# Altium schematic symbol library dungvh03-CERN_AnalogInterface.SchLib: 1053 symbols (part 6 of 12)
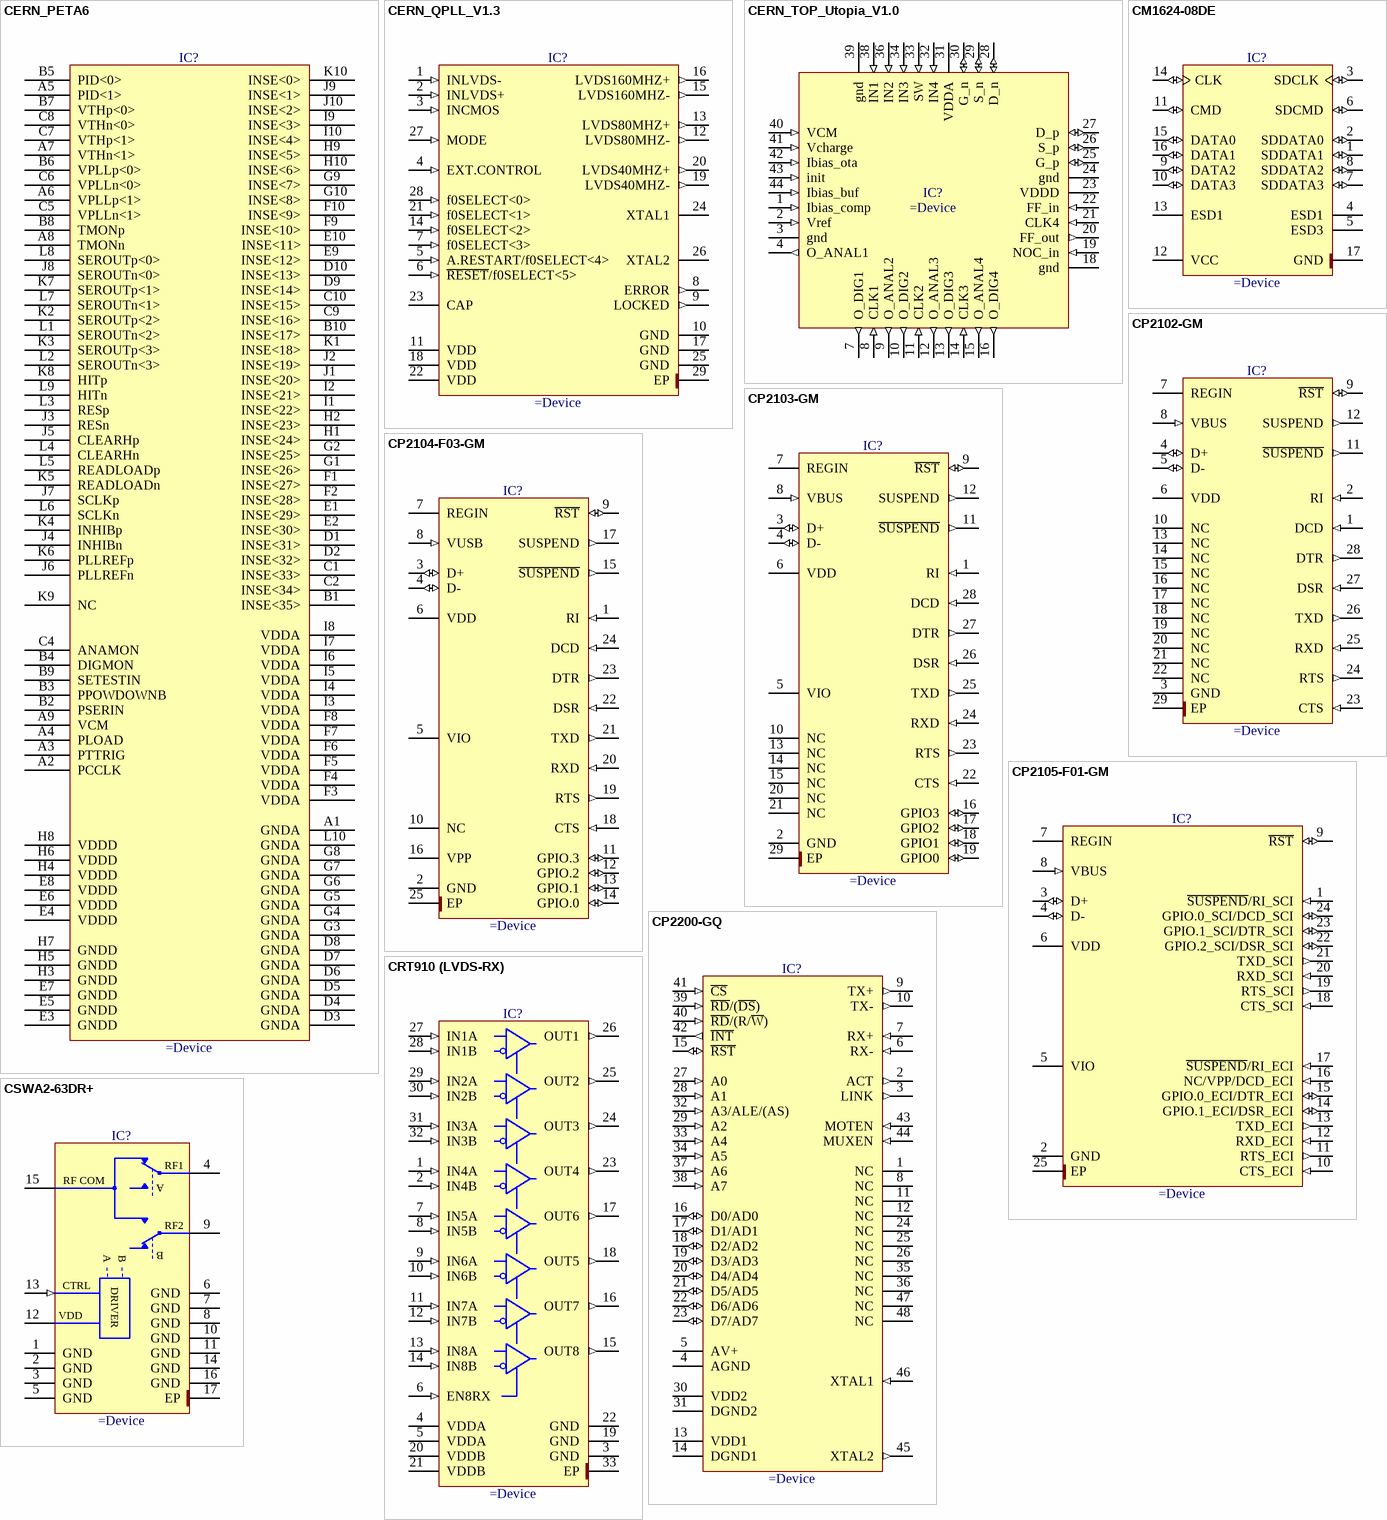
[diagram p72: symbols CERN_PETA6 to CSWA2-63DR+]

## CSWA2-63DR+
designator IC?
Absorptive SPDT RF Switch with Internal Driver, 50 Ohms, 500 to 6000MHz
pins: 1 GND (power), 2 GND (power), 3 GND (power), 4 RF1, 5 GND (power), 6 GND (power), 7 GND (power), 8 GND (power), 9 RF2, 10 GND (power), 11 GND (power), 12 VDD (power), 13 CTRL (in), 14 GND (power), 15 RF COM, 16 GND (power), 17 EP (power)
text: A; B; DRIVER

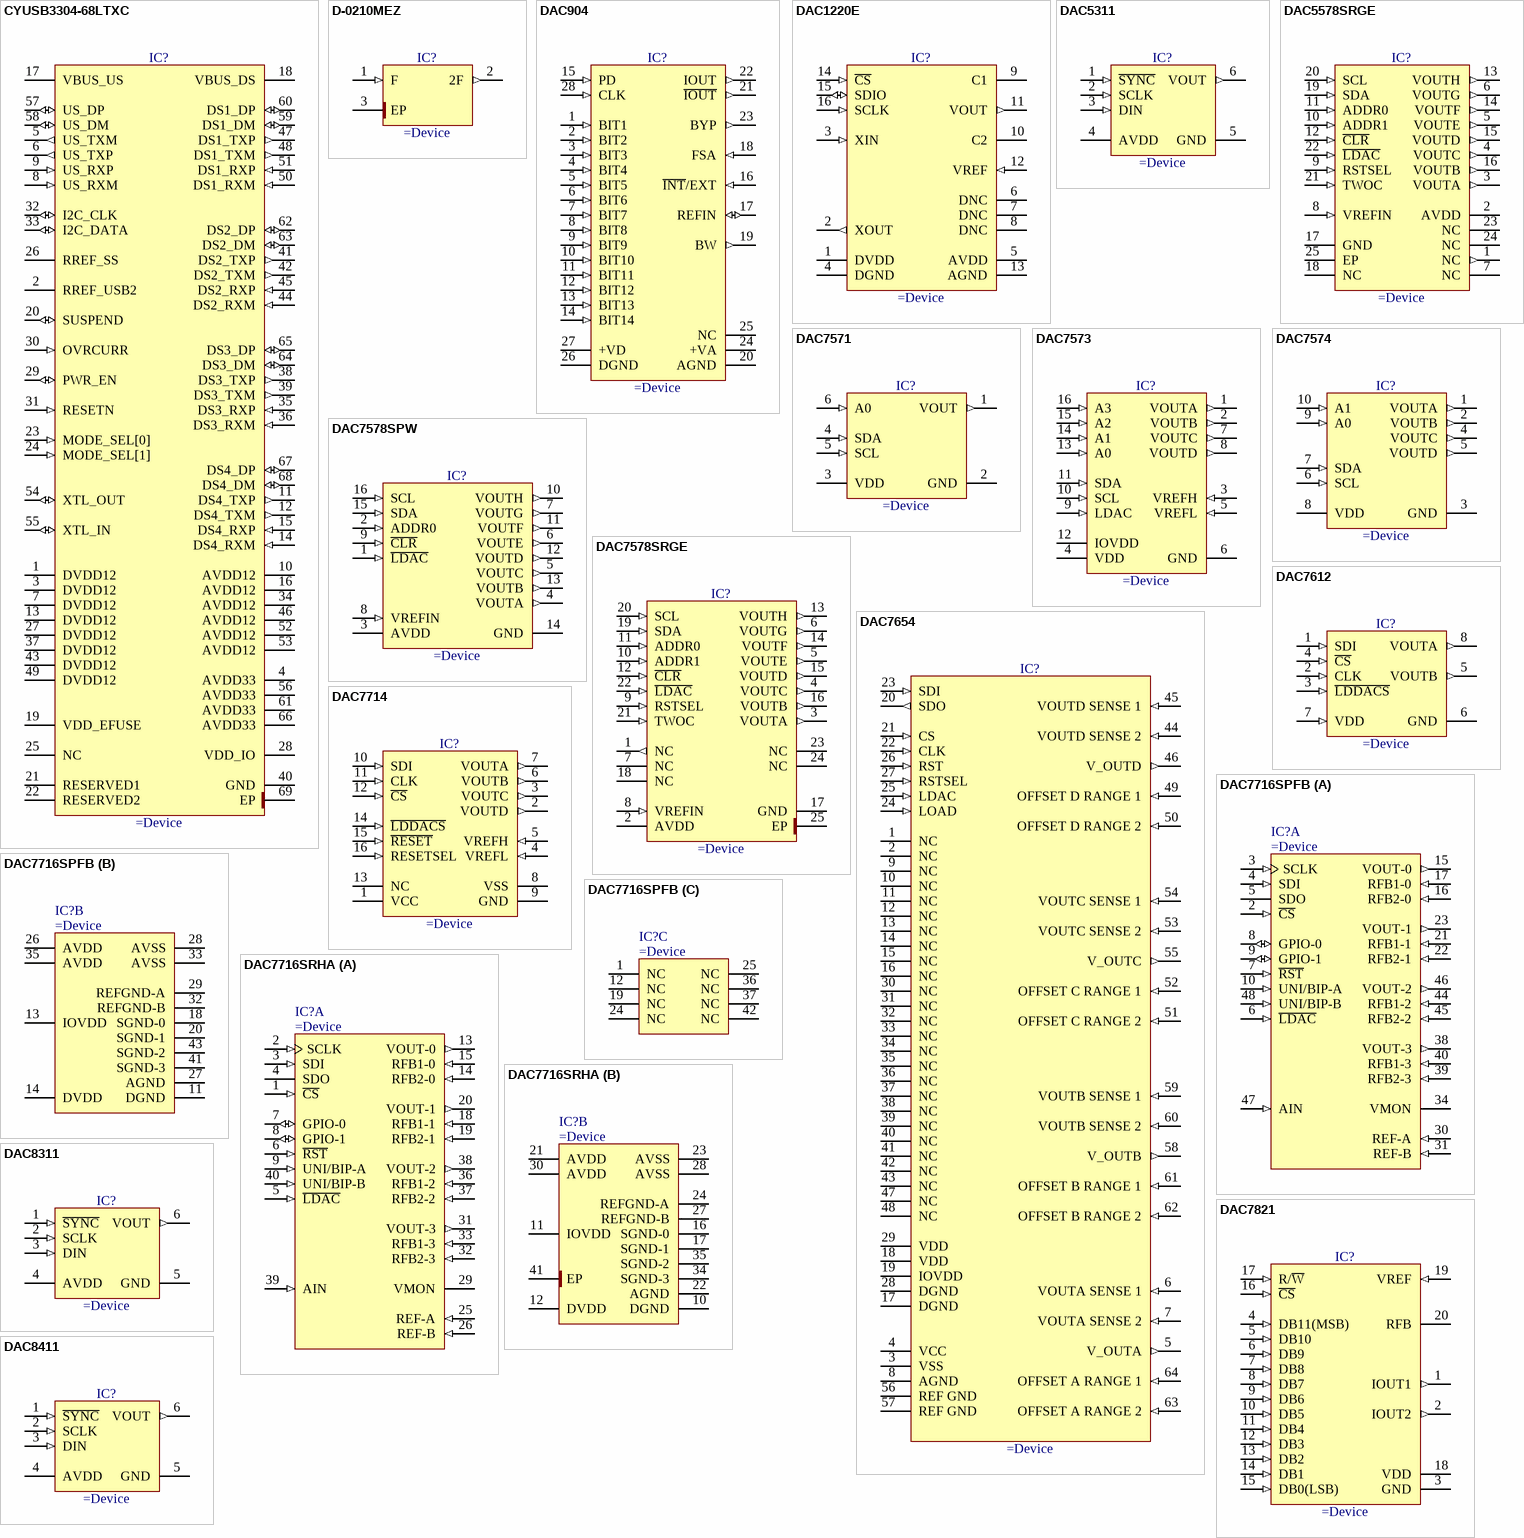
[diagram p28: symbols CYUSB3304-68LTXC to DAC8411]

## CYUSB3304-68LTXC
designator IC?
4 Ports USB 3.0 Hub Controller
pins: 1 DVDD12 (power), 2 RREF_USB2, 3 DVDD12 (power), 4 AVDD33 (power), 5 US_TXM (out), 6 US_TXP (out), 7 DVDD12 (power), 8 US_RXM (in), 9 US_RXP (in), 10 AVDD12 (power), 11 DS4_TXP (out), 12 DS4_TXM (out), 13 DVDD12 (power), 14 DS4_RXM (in), 15 DS4_RXP (in), 16 AVDD12 (power), 17 VBUS_US (power), 18 VBUS_DS (power), 19 VDD_EFUSE (power), 20 SUSPEND (io), 21 RESERVED1, 22 RESERVED2, 23 MODE_SEL[0] (in), 24 MODE_SEL[1] (in), 25 NC, 26 RREF_SS, 27 DVDD12 (power), 28 VDD_IO (power), 29 PWR_EN (io), 30 OVRCURR (in), 31 RESETN (in), 32 I2C_CLK (io), 33 I2C_DATA (io), 34 AVDD12 (power), 35 DS3_RXP (in), 36 DS3_RXM (in), 37 DVDD12 (power), 38 DS3_TXP (out), 39 DS3_TXM (out), 40 GND (power), 41 DS2_TXP (out), 42 DS2_TXM (out), 43 DVDD12 (power), 44 DS2_RXM (in), 45 DS2_RXP (in), 46 AVDD12 (power), 47 DS1_TXP (out), 48 DS1_TXM (out), 49 DVDD12 (power), 50 DS1_RXM (in), 51 DS1_RXP (in), 52 AVDD12 (power), 53 AVDD12 (power), 54 XTL_OUT (io), 55 XTL_IN (io), 56 AVDD33 (power), 57 US_DP (io), 58 US_DM (io), 59 DS1_DM (io), 60 DS1_DP (io), 61 AVDD33 (power), 62 DS2_DP (io), 63 DS2_DM (io), 64 DS3_DM (io), 65 DS3_DP (io), 66 AVDD33 (power), 67 DS4_DP (io), 68 DS4_DM (io), 69 EP (power)

## D-0210MEZ
designator IC?
Frequency Doubler - Input 2.0 to 10.0 GHz, Output 4.0 to 20.0 GHz
pins: 1 F (in), 2 2F (out), 3 EP (power)

## DAC904
designator IC?
14-Bit, 165MSPS SpeedPlus(TM) DAC Scalable Current Outputs between 2mA to 20mA
pins: 1 BIT1 (in), 2 BIT2 (in), 3 BIT3 (in), 4 BIT4 (in), 5 BIT5 (in), 6 BIT6 (in), 7 BIT7 (in), 8 BIT8 (in), 9 BIT9 (in), 10 BIT10 (in), 11 BIT11 (in), 12 BIT12 (in), 13 BIT13 (in), 14 BIT14 (in), 15 PD (in), 16 ~{INT}/EXT (in), 17 REFIN (io), 18 FSA (in), 19 BW (out), 20 AGND (power), 21 ~{IOUT} (out), 22 IOUT (out), 23 BYP (out), 24 +VA (power), 25 NC, 26 DGND (power), 27 +VD (power), 28 CLK (in)

## DAC1220E
designator IC?
20-Bit, Low-Power Digital-to-Analog Converter
pins: 1 DVDD (power), 2 XOUT (out), 3 XIN (in), 4 DGND (power), 5 AVDD (power), 6 DNC, 7 DNC, 8 DNC, 9 C1, 10 C2, 11 VOUT (out), 12 VREF (in), 13 AGND (power), 14 ~{CS} (in), 15 SDIO (io), 16 SCLK (in)

## DAC5311
designator IC?
1.8V to 5.5V, 80uA, 8-Bit, Low-Power, Single-Channel, DAC
pins: 1 ~{SYNC} (in), 2 SCLK (in), 3 DIN (in), 4 AVDD (power), 5 GND (power), 6 VOUT (out)

## DAC5578SRGE
designator IC?
8-Bit, Octal-Channel, Ultra-Low Glitch, Voltage Output, Two-Wire Interface Digital-to-Analog Converter
pins: 1 NC (out), 2 AVDD (power), 3 VOUTA (out), 4 VOUTC (out), 5 VOUTE (out), 6 VOUTG (out), 7 NC, 8 VREFIN (in), 9 RSTSEL (in), 10 ADDR1 (in), 11 ADDR0 (in), 12 ~{CLR} (in), 13 VOUTH (out), 14 VOUTF (out), 15 VOUTD (out), 16 VOUTB (out), 17 GND (power), 18 NC, 19 SDA (in), 20 SCL (in), 21 TWOC (in), 22 ~{LDAC} (in), 23 NC, 24 NC, 25 EP (power)

## DAC7571
designator IC?
+2.7 V to +5.5 V, I2C Interface (Receive Only), Voltage Output, 12-Bit Digital-To-Analog Converter
pins: 1 VOUT (out), 2 GND (power), 3 VDD (power), 4 SDA (in), 5 SCL (in), 6 A0 (in)

## DAC7573
designator IC?
Quad, 12-Bit, Low-Power, Voltage Output, I2C Interface Digital-To-Analog Converter
pins: 1 VOUTA (out), 2 VOUTB (out), 3 VREFH (in), 4 VDD, 5 VREFL (in), 6 GND (power), 7 VOUTC (out), 8 VOUTD (out), 9 LDAC (in), 10 SCL (in), 11 SDA (in), 12 IOVDD (power), 13 A0 (in), 14 A1 (in), 15 A2 (in), 16 A3 (in)

## DAC7574
designator IC?
Quad, 12-Bit, Low-Power, Voltage Output, I2C Interface Digital-To-Analog Converter
pins: 1 VOUTA (out), 2 VOUTB (out), 3 GND (power), 4 VOUTC (out), 5 VOUTD (out), 6 SCL (in), 7 SDA (in), 8 VDD, 9 A0 (in), 10 A1 (in)

## DAC7578SPW
designator IC?
12-Bit, Octal-Channel, Ultra-Low Glitch, Voltage Output, Two-Wire Interface Digital-To-Analog Converters
pins: 1 ~{LDAC} (in), 2 ADDR0 (in), 3 AVDD (power), 4 VOUTA (out), 5 VOUTC (out), 6 VOUTE (out), 7 VOUTG (out), 8 VREFIN (in), 9 ~{CLR} (in), 10 VOUTH (out), 11 VOUTF (out), 12 VOUTD (out), 13 VOUTB (out), 14 GND (power), 15 SDA (in), 16 SCL (in)

## DAC7578SRGE
designator IC?
8-Bit, Octal-Channel, Ultra-Low Glitch, Voltage Output, Two-Wire Interface Digital-to-Analog Converter
pins: 1 NC (out), 2 AVDD (power), 3 VOUTA (out), 4 VOUTC (out), 5 VOUTE (out), 6 VOUTG (out), 7 NC, 8 VREFIN (in), 9 RSTSEL (in), 10 ADDR1 (in), 11 ADDR0 (in), 12 ~{CLR} (in), 13 VOUTH (out), 14 VOUTF (out), 15 VOUTD (out), 16 VOUTB (out), 17 GND (power), 18 NC, 19 SDA (in), 20 SCL (in), 21 TWOC (in), 22 ~{LDAC} (in), 23 NC, 24 NC, 25 EP (power)

## DAC7612
designator IC?
Dual, 12-Bit Serial Input Digital-To-Analog Converter
pins: 1 SDI (in), 2 CLK (in), 3 ~{LDDACS} (in), 4 ~{CS} (in), 5 VOUTB (out), 6 GND (power), 7 VDD (in), 8 VOUTA (out)

## DAC7654
designator IC?
16-Bit Quad Voltage Output DAC
pins: 1 NC, 2 NC, 3 VSS (power), 4 VCC (power), 5 V_OUTA (out), 6 VOUTA SENSE 1 (in), 7 VOUTA SENSE 2 (in), 8 AGND (power), 9 NC, 10 NC, 11 NC, 12 NC, 13 NC, 14 NC, 15 NC, 16 NC, 17 DGND (power), 18 VDD (power), 19 IOVDD (power), 20 SDO (out), 21 CS (in), 22 CLK (in), 23 SDI (in), 24 LOAD (in), 25 LDAC (in), 26 RST (in), 27 RSTSEL (in), 28 DGND (power), 29 VDD (power), 30 NC, 31 NC, 32 NC, 33 NC, 34 NC, 35 NC, 36 NC, 37 NC, 38 NC, 39 NC, 40 NC, 41 NC, 42 NC, 43 NC, 44 VOUTD SENSE 2 (in), 45 VOUTD SENSE 1 (in), 46 V_OUTD (out), 47 NC, 48 NC, 49 OFFSET D RANGE 1 (in), 50 OFFSET D RANGE 2 (in), 51 OFFSET C RANGE 2 (in), 52 OFFSET C RANGE 1 (in), 53 VOUTC SENSE 2 (in), 54 VOUTC SENSE 1 (in), 55 V_OUTC (out), 56 REF GND (power), 57 REF GND (power), 58 V_OUTB (out), 59 VOUTB SENSE 1 (in), 60 VOUTB SENSE 2 (in), 61 OFFSET B RANGE 1 (in), 62 OFFSET B RANGE 2 (in), 63 OFFSET A RANGE 2 (in), 64 OFFSET A RANGE 1 (in)

## DAC7714
designator IC?
Quad, Serial Input, 12-Bit, Voltage Output DAC
pins: 1 VCC (power), 2 VOUTD (out), 3 VOUTC (out), 4 VREFL (in), 5 VREFH (in), 6 VOUTB (out), 7 VOUTA (out), 8 VSS (power), 9 GND (power), 10 SDI (in), 11 CLK (in), 12 ~{CS} (in), 13 NC, 14 ~{LDDACS} (in), 15 ~{RESET} (in), 16 RESETSEL (in)

## DAC7716SPFB
designator IC?
Quad, 12-Bit, High-Accuracy, ±16V Output, Serial Input DAC
part A pins: 2 ~{CS} (in) "SPI bus chip select input (active low). Data are not clocked into the SPI shift register unless C\S\ is low. When C\S\ is high, SDO is in a high-impedance state.", 3 SCLK (in) "SPI bus clock", 4 SDI (in) "SPI bus input data", 5 SDO (hiz) "SPI output data", 6 ~{LDAC} (in) "Load DAC latch control input (active low). When L\D\A\C\ is low, the DAC latch is transparent and the contents of the Input Data Register are transferred to it. The DAC output changes to the corresponding level (See Datasheet)", 7 ~{RST} (in) "Reset input (active low). Logic low on this pin resets the input registers and DACs to the values defined by the UNI/BIP pins, and sets the Gain Register and Zero Register to default values.", 8 GPIO-0 (io) "General-purpose digital input/output 0. This pin is a bidirectional, digital input/output, and has an open-drain output. A 10kO pull-up resistor to IOVDD is needed when this pin is used as an output. See the GPIO Pins (See Datasheet)", 9 GPIO-1 (io) "General-purpose digital input/output 1. This pin is a bidirectional, digital input/output, and has an open-drain output. A 10kO pull-up resistor to IOVDD is needed when this pin is used as an output. See the GPIO Pins (See Datasheet)", 10 UNI/BIP-A (in) "Output mode selection of group A (DAC-0 and DAC-1). When UNI/BIP-A is tied to IOVDD, group A is in unipolar output mode; when tied to DGND, group A is in bipolar output mode. The input data written to the DAC are straight (See Datasheet)", 15 VOUT-0 (out) "DAC-0 output", 16 RFB2-0 (in) "DAC-0 RFB2 feedback", 17 RFB1-0 (in) "DAC-0 RFB1 feedback", 21 RFB1-1 (in) "DAC-1 RFB1 feedback", 22 RFB2-1 (in) "DAC-1 RFB2 feedback", 23 VOUT-1 (out) "DAC-1 output", 30 REF-A (in) "Group A (DAC-0, DAC-1) reference input", 31 REF-B (in) "Group B (DAC-2, DAC-3) reference input", 34 VMON (hiz) "Analog monitor output. This pin is either in Hi-Z status, or connected to one of the four DAC outputs or AIN, depending on the content of the Monitor Register.", 38 VOUT-3 (out) "DAC-3 output", 39 RFB2-3 (in) "DAC-3 RFB2 feedback", 40 RFB1-3 (in) "DAC-3 RFB1 feedback", 44 RFB1-2 (in) "DAC-2 RFB1 feedback", 45 RFB2-2 (in) "DAC-2 RFB2 feedback", 46 VOUT-2 (out) "DAC-2 output", 47 AIN (in) "Auxiliary analog input. Connected to the analog monitor mux.", 48 UNI/BIP-B (in) "Output mode selection of group B (DAC-2 and DAC-3). When UNI/BIP-A is tied to IOVDD, group B is in unipolar output mode; when tied to DGND, group B is in bipolar output mode. The input data written to the DAC are straight (See Datasheet)"
part B pins: 11 DGND (power) "Digital ground", 13 IOVDD (power) "Interface power", 14 DVDD (power) "Digital power", 18 SGND-0 (power) "DAC-0 signal ground. Connected to REFGND-A.", 20 SGND-1 (power) "DAC-1 signal ground. Connected to REFGND-A.", 26 AVDD (power) "Positive analog power supply", 27 AGND (power) "Analog ground", 28 AVSS (power) "Negative analog power supply", 29 REFGND-A (power) "Reference REF-A ground. Connect to AGND.", 32 REFGND-B (power) "Reference REF-B ground. Connect to AGND.", 33 AVSS (power) "Negative analog power supply", 35 AVDD (power) "Positive analog power supply", 41 SGND-3 (power) "DAC-3 signal ground. Connected to REFGND-B.", 43 SGND-2 (power) "DAC-2 signal ground. Connected to REFGND-B."
part C pins: 1 NC "Not connected", 12 NC "Not connected", 19 NC "Not connected", 24 NC "Not connected", 25 NC "Not connected", 36 NC "Not connected", 37 NC "Not connected", 42 NC "Not connected"

## DAC7716SRHA
designator IC?
Quad, 12-Bit, High-Accuracy, ±16V Output, Serial Input Digital-to-Analog Converter
part A pins: 1 ~{CS} (in), 2 SCLK (in), 3 SDI (in), 4 SDO (hiz), 5 ~{LDAC} (in), 6 ~{RST} (in), 7 GPIO-0 (io), 8 GPIO-1 (io), 9 UNI/BIP-A (in), 13 VOUT-0 (out), 14 RFB2-0 (in), 15 RFB1-0 (in), 18 RFB1-1 (in), 19 RFB2-1 (in), 20 VOUT-1 (out), 25 REF-A (in), 26 REF-B (in), 29 VMON (hiz), 31 VOUT-3 (out), 32 RFB2-3 (in), 33 RFB1-3 (in), 36 RFB1-2 (in), 37 RFB2-2 (in), 38 VOUT-2 (out), 39 AIN (in), 40 UNI/BIP-B (in)
part B pins: 10 DGND (power), 11 IOVDD (power), 12 DVDD (power), 16 SGND-0 (power), 17 SGND-1 (power), 21 AVDD (power), 22 AGND (power), 23 AVSS (power), 24 REFGND-A (power), 27 REFGND-B (power), 28 AVSS (power), 30 AVDD (power), 34 SGND-3 (power), 35 SGND-2 (power), 41 EP

## DAC7821
designator IC?
12-Bit, Parallel Input, Multiplying Digital-to-Analog Converter
pins: 1 IOUT1 (out), 2 IOUT2 (out), 3 GND (power), 4 DB11(MSB) (in), 5 DB10 (in), 6 DB9 (in), 7 DB8 (in), 8 DB7 (in), 9 DB6 (in), 10 DB5 (in), 11 DB4 (in), 12 DB3 (in), 13 DB2 (in), 14 DB1 (in), 15 DB0(LSB) (in), 16 ~{CS} (in), 17 R/~{W} (in), 18 VDD (power), 19 VREF (in), 20 RFB

## DAC8311
designator IC?
1.8V to 5.5V, 80uA, 14-Bit, Low-Power, Single-Channel, DAC
pins: 1 ~{SYNC} (in), 2 SCLK (in), 3 DIN (in), 4 AVDD (power), 5 GND (power), 6 VOUT (out)

## DAC8411
designator IC?
2.0V to 5.5V, 80μA, 16-Bit, Low-Power, Single-Channel, Digital-to-Analog Converter
pins: 1 ~{SYNC} (in), 2 SCLK (in), 3 DIN (in), 4 AVDD (power), 5 GND (power), 6 VOUT (out)

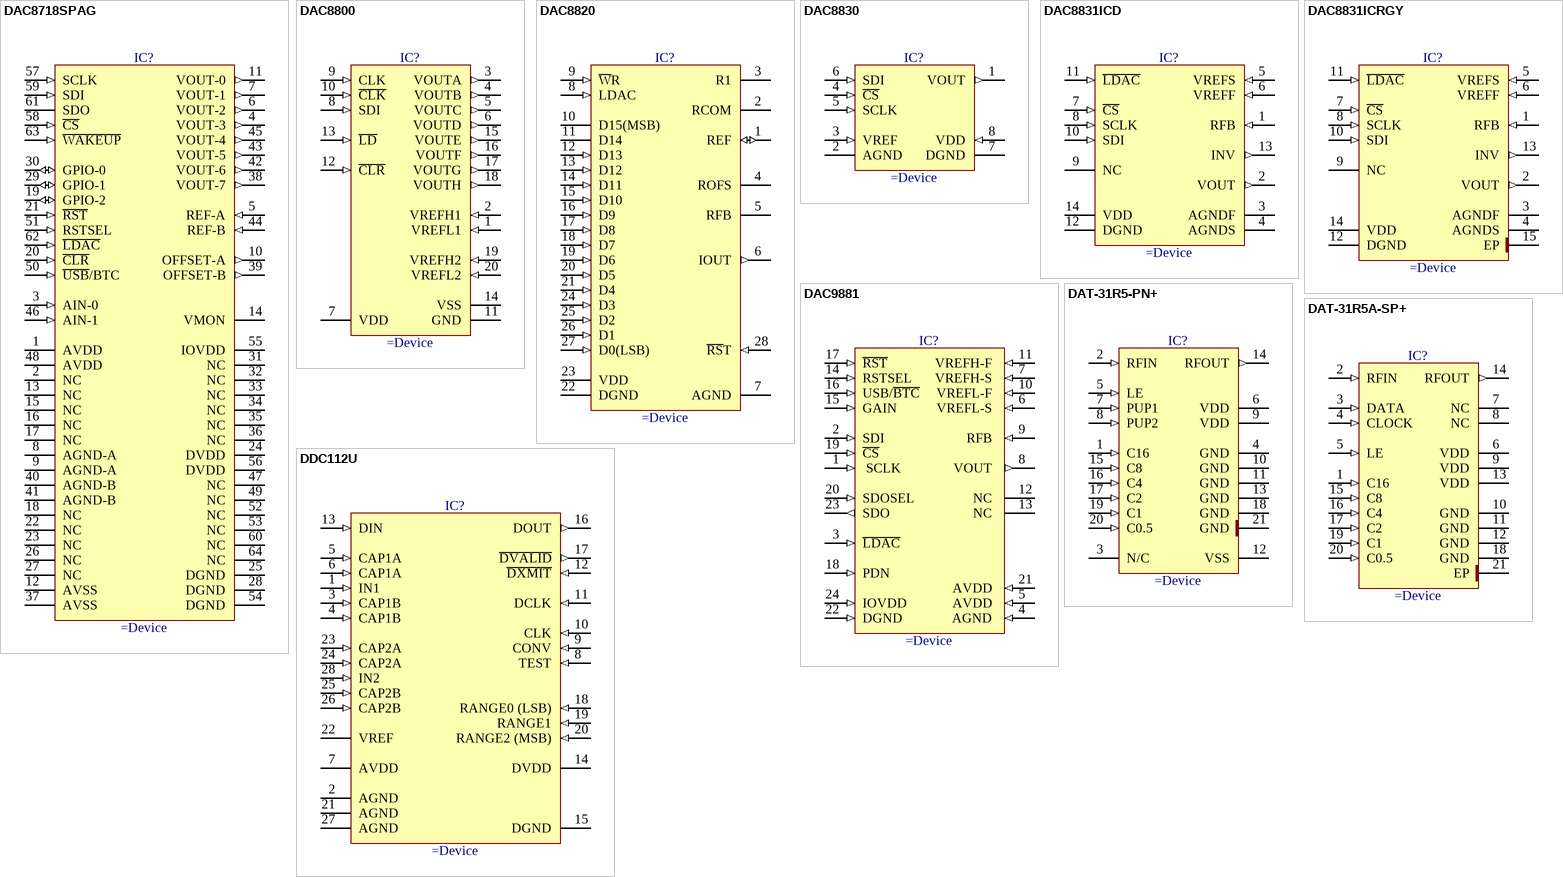
[diagram p29: symbols DAC8718SPAG to DDC112U]

## DAC8718SPAG
designator IC?
Octal, 16-Bit, Low-Power, High-Voltage Output, Serial Input Digital-to-Analog Converter
pins: 1 AVDD (power) "Positive analog power supply", 2 NC "Not connected", 3 AIN-0 (in) "Auxiliary analog input 0, directly routed to the analog mux", 4 VOUT-3 (out) "DAC-3 output", 5 REF-A (in) "Group A(1) reference input", 6 VOUT-2 (out) "DAC-2 output", 7 VOUT-1 (out) "DAC-1 output", 8 AGND-A (power) "Group A analog ground and the ground of REF-A. This pin must be tied to AGND-B and DGND.", 9 AGND-A (power) "Group A analog ground and the ground of REF-A. This pin must be tied to AGND-B and DGND.", 10 OFFSET-A (out) "OFFSET DAC-A analog output. Must be connected to AGND-A during single power-supply operation (AVSS = 0V). This pin is not intended to drive an external load.", 11 VOUT-0 (out) "DAC-0 output", 12 AVSS (power) "Negative analog power supply", 13 NC "Not connected", 14 VMON (hiz) "Analog monitor output. This pin is either in Hi-Z status, connected to one of the eight DAC outputs, reference buffer outputs, offset DAC outputs, or one of the auxiliary analog inputs, depending on the content of the (See Datasheet)", 15 NC "Not connected", 16 NC "Not connected", 17 NC "Not connected", 18 NC "Not connected", 19 GPIO-2 (io) "General-purpose digital input/output 2. This pin is a bidirectional digital input/output, open-drain and requires an external pull-up resistor. See the GPIO Pins section for details.", 20 ~{CLR} (in) "Clear input, level triggered. When the C\L\R\ pin is logic '0', all VOUT-X pins connect to AGND-x through switches and internal low-impedance. When the C\L\R\ pin is logic '1', all VOUT-X pins connect to the amplifier (See Datasheet)", 21 ~{RST} (in) "Reset input (active low). Logic low on this pin resets the DAC registers and DACs to the values defined by the RSTSEL pin. C\S\ must be logic high when R\S\T\ is active.", 22 NC "Not connected", 23 NC "Not connected", 24 DVDD (power) "Digital power supply", 25 DGND (power) "Digital ground", 26 NC "Not connected", 27 NC "Not connected", 28 DGND (power) "Digital ground", 29 GPIO-1 (io) "General-purpose digital input/output 1. This pin is a bidirectional digital input/output, open-drain and requires an external resistor. See the GPIO Pins section for details.", 30 GPIO-0 (io) "General-purpose digital input/output 0. This pin is a bidirectional digital input/output, open-drain and requires an external resistor. See the GPIO Pins section for details.", 31 NC "Not connected", 32 NC "Not connected", 33 NC "Not connected", 34 NC "Not connected", 35 NC "Not connected", 36 NC "Not connected", 37 AVSS (power) "Negative analog power supply", 38 VOUT-7 (out) "DAC-7 output", 39 OFFSET-B (out) "OFFSET DAC-B analog output. Must be connected to AGND-B during single-supply operation (AVSS = 0V).", 40 AGND-B (power) "Group B(1) analog ground and the ground of REF-B. This pin must be tied to AGND-A and DGND.", 41 AGND-B (power) "Group B analog ground and the ground of REF-B. This pin must be tied to AGND-A and DGND.", 42 VOUT-6 (out) "DAC-6 output", 43 VOUT-5 (out) "DAC-5 output", 44 REF-B (in) "Group B reference input", 45 VOUT-4 (out) "DAC-4 output", 46 AIN-1 (in) "Auxiliary analog input 1, directly routed to the analog mux", 47 NC "Not connected", 48 AVDD (power) "Positive analog power supply", 49 NC "Not connected", 50 ~{USB}/BTC (in) "Data format selection of Input DAC data and Offset DAC data. Data are in straight binary format when connected to DGND or in twos complement format when connected to IOVDD. The command data are always in straight binary (See Datasheet)", 51 RSTSEL (in) "Output reset selection. Selects the output voltage on the VOUT pin after power-on or hardware reset. Refer to the Power-On Reset section for details.", 52 NC "Not connected", 53 NC "Not connected", 54 DGND (power) "Digital ground", 55 IOVDD (power) "Interface power", 56 DVDD (power) "Digital power supply", 57 SCLK (in) "SPI bus serial clock input", 58 ~{CS} (in) "SPI bus chip select input (active low). Data are not clocked into SDI unless C\S\ is low. When C\S\ is high, SDO is in a high-impedance state and the SCLK and SDI signals are blocked from the device.", 59 SDI (in) "SPI bus serial data input", 60 NC "Not connected", 61 SDO (hiz) "SPI bus serial data output. When the DSDO bit = '0', the SDO pin works as an output in normal operation. When the DSDO bit = '1', SDO is always in a Hi-Z state, regardless of the C\S\ pin status. Refer to the Timing Diagrams (See Datasheet)", 62 ~{LDAC} (in) "Load DAC latch control input (active low). When L\D\A\C\ is low, the DAC latch is transparent and the contents of the DAC Data Register are transferred to it. The DAC output changes to the corresponding level simultaneously (See Datasheet)", 63 ~{WAKEUP} (in) "Wake-up input (active low). Restores the SPI from sleep to normal operation. See the Daisy-Chain Operation section for details.", 64 NC "Not connected"

## DAC8800
designator IC?
Octal 8-Bit CMOS DAC
pins: 1 VREFL1 (in), 2 VREFH1 (in), 3 VOUTA (out), 4 VOUTB (out), 5 VOUTC (out), 6 VOUTD (out), 7 VDD (power), 8 SDI (in), 9 CLK (in), 10 ~{CLK} (in), 11 GND (power), 12 ~{CLR} (in), 13 ~{LD} (in), 14 VSS (power), 15 VOUTE (out), 16 VOUTF (out), 17 VOUTG (out), 18 VOUTH (out), 19 VREFH2 (in), 20 VREFL2 (in)

## DAC8820
designator IC?
16-Bit, Parallel Input Multiplying Digital-to-Analog Converter
pins: 1 REF (io), 2 RCOM, 3 R1, 4 ROFS, 5 RFB, 6 IOUT (out), 7 AGND (power), 8 LDAC (in), 9 ~{W}R (in), 10 D15(MSB) (power), 11 D14 (power), 12 D13 (in), 13 D12 (in), 14 D11 (in), 15 D10 (in), 16 D9 (in), 17 D8 (in), 18 D7 (in), 19 D6 (in), 20 D5 (in), 21 D4 (in), 22 DGND (power), 23 VDD (power), 24 D3 (in), 25 D2 (in), 26 D1 (in), 27 D0(LSB) (in), 28 ~{RS}T (in)

## DAC8830
designator IC?
16-Bit, Ultra-Low Power, Voltage-Output DAC
pins: 1 VOUT (out), 2 AGND (power), 3 VREF (in), 4 ~{CS} (in), 5 SCLK (in), 6 SDI (in), 7 DGND (power), 8 VDD (in)

## DAC8831ICD
designator IC?
16-Bit, Ultra-Low Power, Voltage-Output Digital-to-Analog Converter
pins: 1 RFB (in), 2 VOUT (out), 3 AGNDF (power), 4 AGNDS (power), 5 VREFS (in), 6 VREFF (in), 7 ~{CS} (in), 8 SCLK (in), 9 NC, 10 SDI (in), 11 ~{LDAC} (in), 12 DGND (power), 13 INV (out), 14 VDD (power)

## DAC8831ICRGY
designator IC?
16-Bit, Ultra-Low Power, Voltage-Output Digital-to-Analog Converter
pins: 1 RFB (in), 2 VOUT (out), 3 AGNDF (power), 4 AGNDS (power), 5 VREFS (in), 6 VREFF (in), 7 ~{CS} (in), 8 SCLK (in), 9 NC, 10 SDI (in), 11 ~{LDAC} (in), 12 DGND (power), 13 INV (out), 14 VDD (power), 15 EP (power)

## DAC9881
designator IC?
18-Bit, Single-Channel, Low-Noise, Voltage-Output DAC
pins: 1  SCLK  (in), 2 SDI  (in), 3 ~{LDAC}  (in), 4 AGND  (in), 5 AVDD  (in), 6 VREFL-S  (in), 7 VREFH-S  (in), 8 VOUT  (out), 9 RFB  (in), 10 VREFL-F  (in), 11 VREFH-F  (in), 12 NC , 13 NC , 14 RSTSEL  (in), 15 GAIN  (in), 16 USB/~{BTC}  (in), 17 ~{RST}  (in), 18 PDN  (in), 19 ~{CS}  (in), 20 SDOSEL  (in), 21 AVDD  (in), 22 DGND  (in), 23 SDO  (out), 24 IOVDD  (in)

## DAT-31R5-PN+
designator IC?
6 Bit, Parallel Control Interface, Dual Supply Voltage 50 Ohm DC-2400MHz Digital Step Attenuator
pins: 1 C16 (in), 2 RFIN (in), 3 N/C, 4 GND (power), 5 LE (in), 6 VDD (power), 7 PUP1 (in), 8 PUP2 (in), 9 VDD (power), 10 GND (power), 11 GND (power), 12 VSS (power), 13 GND (power), 14 RFOUT (out), 15 C8 (in), 16 C4 (in), 17 C2 (in), 18 GND (power), 19 C1 (in), 20 C0.5 (in), 21 GND (power)

## DAT-31R5A-SP+
designator IC?
Digital Step Attenuator, 50 Ohm, 0 to 31.5dB, 0.5dB Step, 6-Bit Serial Control Interface
pins: 1 C16 (in), 2 RFIN (in), 3 DATA (in), 4 CLOCK (in), 5 LE (in), 6 VDD (power), 7 NC, 8 NC, 9 VDD (power), 10 GND (power), 11 GND (power), 12 GND (power), 13 VDD (power), 14 RFOUT (out), 15 C8 (in), 16 C4 (in), 17 C2 (in), 18 GND (power), 19 C1 (in), 20 C0.5 (in), 21 EP (power)

## DDC112U
designator IC?
Dual Current Input 20-Bit, Analog-To-Digital Converter
pins: 1 IN1 (in), 2 AGND (power), 3 CAP1B (in), 4 CAP1B (in), 5 CAP1A (in), 6 CAP1A (in), 7 AVDD (power), 8 TEST (in), 9 CONV (in), 10 CLK (in), 11 DCLK (in), 12 ~{DXMIT} (in), 13 DIN (in), 14 DVDD (power), 15 DGND (power), 16 DOUT (out), 17 ~{DVALID} (out), 18 RANGE0 (LSB) (in), 19 RANGE1 (in), 20 RANGE2 (MSB) (in), 21 AGND (power), 22 VREF (power), 23 CAP2A (in), 24 CAP2A (in), 25 CAP2B (in), 26 CAP2B (in), 27 AGND (power), 28 IN2 (in)

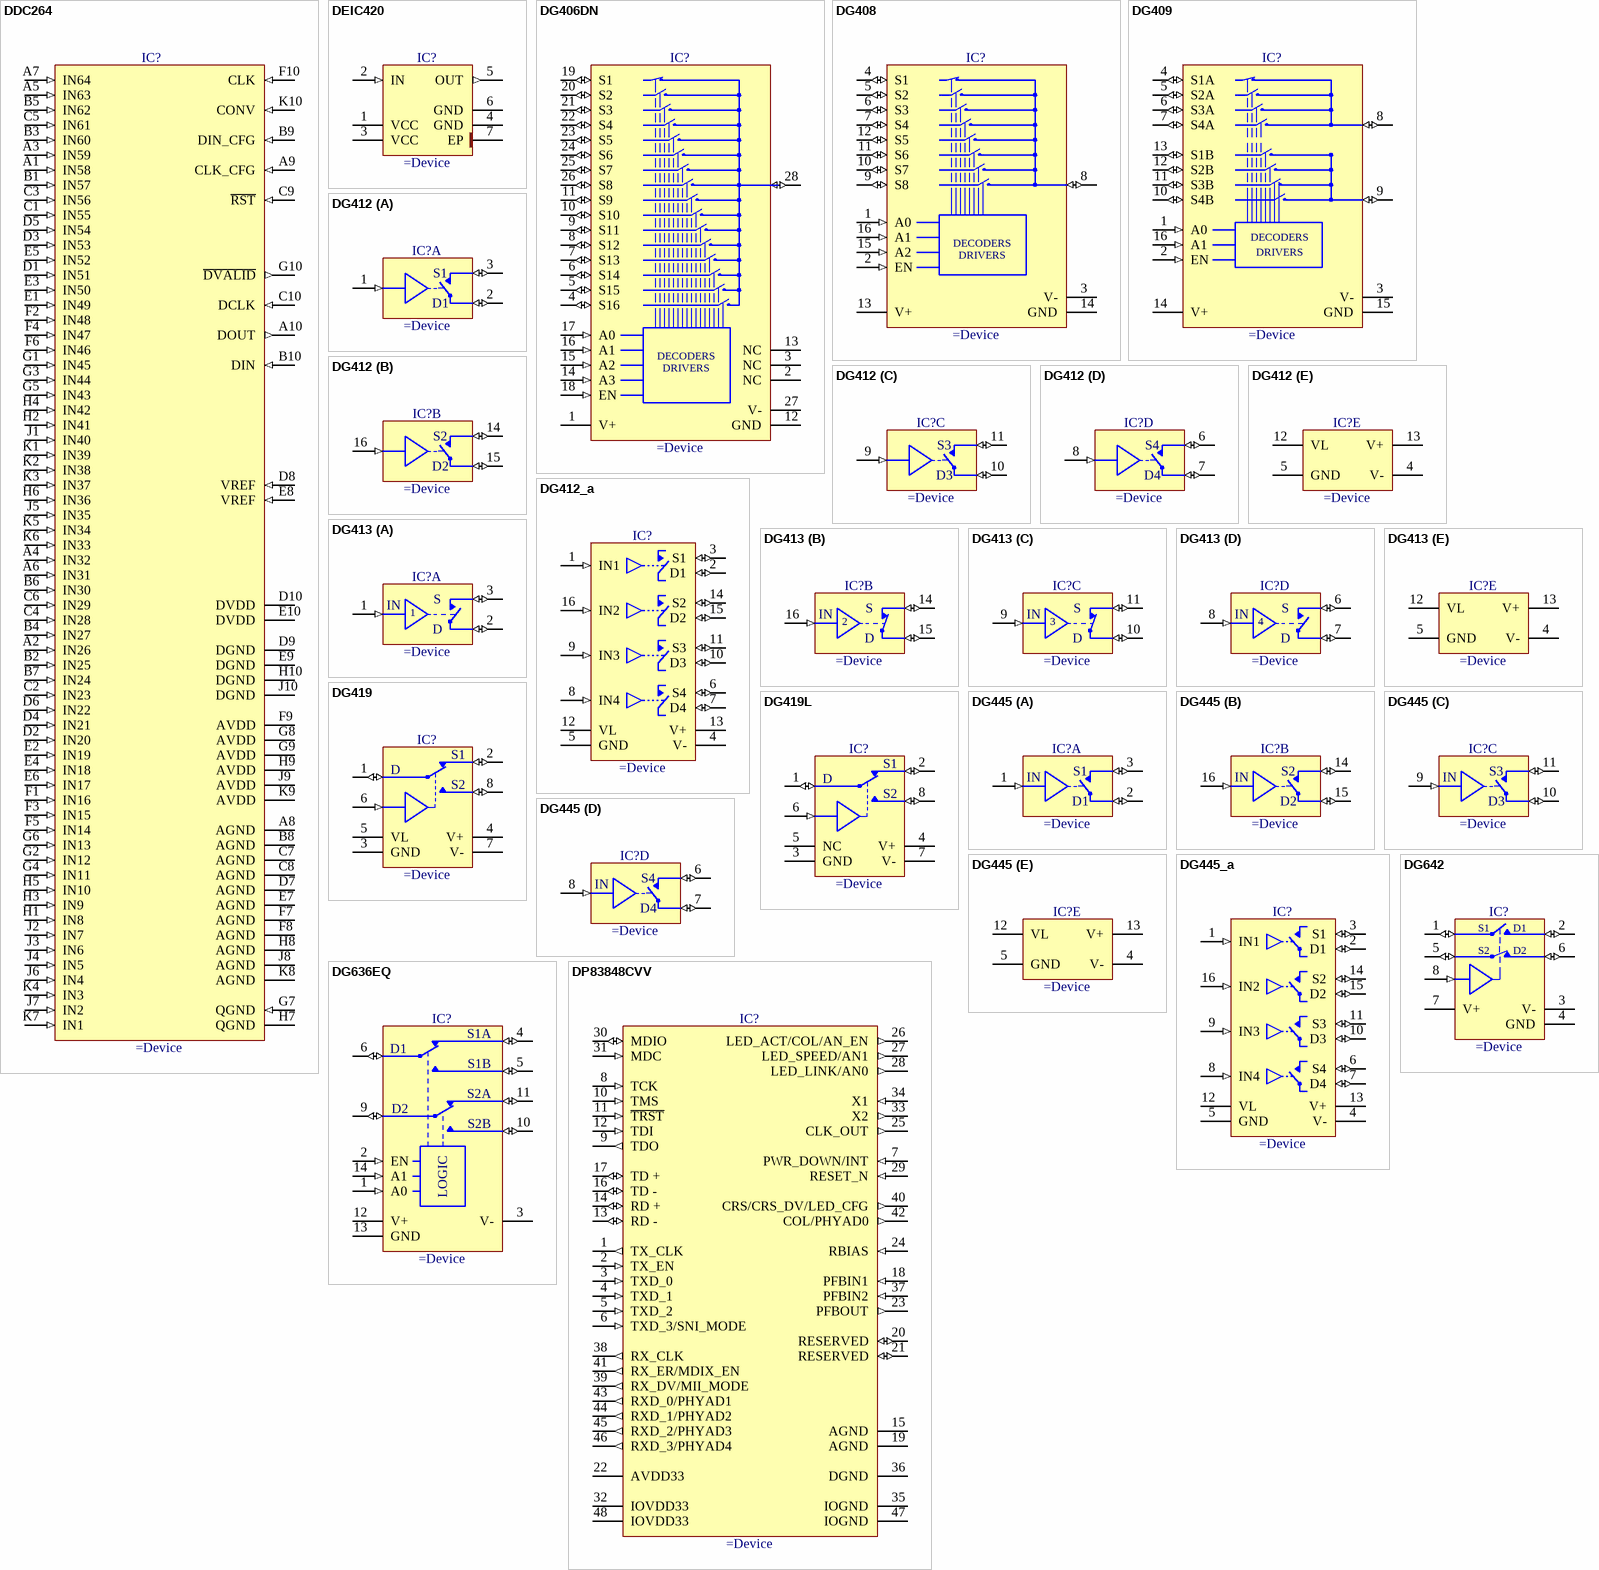
[diagram p30: symbols DDC264 to DP83848CVV]

## DDC264
designator IC?
64-Channel, Current-Input Analog-to-Digital Converter
pins: A1 IN58 (in), A2 IN26 (in), A3 IN59 (in), A4 IN32 (in), A5 IN63 (in), A6 IN31 (in), A7 IN64 (in), A8 AGND (power), A9 CLK_CFG (in), A10 DOUT (out), B1 IN57 (in), B2 IN25 (in), B3 IN60 (in), B4 IN27 (in), B5 IN62 (in), B6 IN30 (in), B7 IN24 (in), B8 AGND (power), B9 DIN_CFG (in), B10 DIN (in), C1 IN55 (in), C2 IN23 (in), C3 IN56 (in), C4 IN28 (in), C5 IN61 (in), C6 IN29 (in), C7 AGND (power), C8 AGND (power), C9 ~{RST} (in), C10 DCLK (in), D1 IN51 (in), D2 IN20 (in), D3 IN53 (in), D4 IN21 (in), D5 IN54 (in), D6 IN22 (in), D7 AGND (power), D8 VREF (in), D9 DGND (power), D10 DVDD (power), E1 IN49 (in), E2 IN19 (in), E3 IN50 (in), E4 IN18 (in), E5 IN52 (in), E6 IN17 (in), E7 AGND (power), E8 VREF (in), E9 DGND (power), E10 DVDD (power), F1 IN16 (in), F2 IN48 (in), F3 IN15 (in), F4 IN47 (in), F5 IN14 (in), F6 IN46 (in), F7 AGND (power), F8 AGND (power), F9 AVDD (power), F10 CLK (in), G1 IN45 (in), G2 IN12 (in), G3 IN44 (in), G4 IN11 (in), G5 IN43 (in), G6 IN13 (in), G7 QGND (in), G8 AVDD (power), G9 AVDD (power), G10 ~{DVALID} (out), H1 IN8 (in), H2 IN41 (in), H3 IN9 (in), H4 IN42 (in), H5 IN10 (in), H6 IN36 (in), H7 QGND (power), H8 AGND (power), H9 AVDD (power), H10 DGND (power), J1 IN40 (in), J2 IN7 (in), J3 IN6 (in), J4 IN5 (in), J5 IN35 (in), J6 IN4 (in), J7 IN2 (in), J8 AGND (power), J9 AVDD (power), J10 DGND (power), K1 IN39 (in), K2 IN38 (in), K3 IN37 (in), K4 IN3 (in), K5 IN34 (in), K6 IN33 (in), K7 IN1 (in), K8 AGND (power), K9 AVDD (power), K10 CONV (in)

## DEIC420
designator IC?
20 Ampere Low-Side Ultrafast RF MOSFET Driver
pins: 1 VCC (power), 2 IN (in), 3 VCC (power), 4 GND (power), 5 OUT (out), 6 GND (power), 7 EP (power)

## DG406DN
designator IC?
16-Channel High-Performance CMOS Analog Multiplexer
pins: 1 V+ (power), 2 NC, 3 NC, 4 S16 (io), 5 S15 (io), 6 S14 (io), 7 S13 (io), 8 S12 (io), 9 S11 (io), 10 S10 (io), 11 S9 (io), 12 GND (power), 13 NC, 14 A3 (in), 15 A2 (in), 16 A1 (in), 17 A0 (in), 18 EN (in), 19 S1 (io), 20 S2 (io), 21 S3 (io), 22 S4 (io), 23 S5 (io), 24 S6 (io), 25 S7 (io), 26 S8 (io), 27 V- (power), 28 D (io)
text: DECODERS; DRIVERS

## DG408
designator IC?
8-Channel High-Performance CMOS Analog Multiplexer
pins: 1 A0 (in), 2 EN (in), 3 V- (power), 4 S1 (io), 5 S2 (io), 6 S3 (io), 7 S4 (io), 8 D (io), 9 S8 (io), 10 S7 (io), 11 S6 (io), 12 S5 (io), 13 V+ (power), 14 GND (power), 15 A2 (in), 16 A1 (in)
text: DECODERS; DRIVERS

## DG409
designator IC?
Dual 4-Channel High-Performance CMOS Analog Multiplexer
pins: 1 A0 (in), 2 EN (in), 3 V- (power), 4 S1A (io), 5 S2A (io), 6 S3A (io), 7 S4A (io), 8 DA (io), 9 DB (io), 10 S4B (io), 11 S3B (io), 12 S2B (io), 13 S1B (io), 14 V+ (power), 15 GND (power), 16 A1 (in)
text: DECODERS; DRIVERS

## DG412
designator IC?
Quad SPST CMOS Analog  Switches
part A pins: 1 IN (in), 2 D (io), 3 S (io)
part B pins: 14 S (io), 15 D (io), 16 IN (in)
part C pins: 9 IN (in), 10 D (io), 11 S (io)
part D pins: 6 S (io), 7 D (io), 8 IN (in)
part E pins: 4 V- (power), 5 GND (power), 12 VL (power), 13 V+ (power)
part A text: S1; D1
part B text: S2; D2
part C text: S3; D3
part D text: S4; D4

## DG412_a
designator IC?
Quad SPST CMOS Analog  Switches
pins: 1 IN1 (in), 2 D1 (io), 3 S1 (io), 4 V- (power), 5 GND (power), 6 S4 (io), 7 D4 (io), 8 IN4 (in), 9 IN3 (in), 10 D3 (io), 11 S3 (io), 12 VL (power), 13 V+ (power), 14 S2 (io), 15 D2 (io), 16 IN2 (in)

## DG413
designator IC?
Improved, Quad SPST Analog Switches (2 Normally Open + 2 Normally Close)
part A pins: 1 IN (in), 2 D (io), 3 S (io)
part B pins: 14 S (io), 15 D (io), 16 IN (in)
part C pins: 9 IN (in), 10 D3 (io), 11 S3 (io)
part D pins: 6 S4 (io), 7 D4 (io), 8 IN (in)
part E pins: 4 V- (power), 5 GND (power), 12 VL (power), 13 V+ (power)

## DG419
designator IC?
Improved, SPDT Analog Switches
pins: 1 D (io), 2 S1 (io), 3 GND (power), 4 V+ (power), 5 VL (power), 6 IN (in), 7 V- (power), 8 S2 (io)

## DG419L
designator IC?
35 Ohm, SPST/SPDT, +3V Logic-Compatible Analog SPDT Switches
pins: 1 D (io), 2 S1 (io), 3 GND (power), 4 V+ (power), 5 NC, 6 IN (in), 7 V- (power), 8 S2 (io)

## DG445
designator IC?
Quad SPST Switches
part A pins: 1 IN (in), 2 D (io), 3 S (io)
part B pins: 14 S (io), 15 D (io), 16 IN (in)
part C pins: 9 IN (in), 10 D (io), 11 S (io)
part D pins: 6 S (io), 7 D (io), 8 IN (in)
part E pins: 4 V- (power), 5 GND (power), 12 VL (power), 13 V+ (power)
part A text: S1; D1
part B text: S2; D2
part C text: S3; D3
part D text: S4; D4

## DG445_a
designator IC?
Quad SPST Switches
pins: 1 IN1 (in), 2 D1 (io), 3 S1 (io), 4 V- (power), 5 GND (power), 6 S4 (io), 7 D4 (io), 8 IN4 (in), 9 IN3 (in), 10 D3 (io), 11 S3 (io), 12 VL (power), 13 V+ (power), 14 S2 (io), 15 D2 (io), 16 IN2 (in)

## DG636EQ
designator IC?
1pC Charge Injection, 100pA Leakage, CMOS, ±5V/+5V/+3V Dual SPDT Switch
pins: 1 A0 (in), 2 EN (in), 3 V- (power), 4 S1A (io), 5 S1B (io), 6 D1 (io), 9 D2 (io), 10 S2B (io), 11 S2A (io), 12 V+ (power), 13 GND (power), 14 A1 (in)
text: LOGIC

## DG642
designator IC?
Low On-Resistance Wideband/Video Switches
pins: 1 S1 (io), 2 D1 (io), 3 V- (power), 4 GND (power), 5 S2 (io), 6 D2 (io), 7 V+ (power), 8 IN (in)

## DP83848CVV
designator IC?
PHYTER™ QFP Single Port 10/100Mb/s Ethernet Physical Layer Transceiver
pins: 1 TX_CLK (out), 2 TX_EN (in), 3 TXD_0 (in), 4 TXD_1 (in), 5 TXD_2 (in), 6 TXD_3/SNI_MODE (in), 7 PWR_DOWN/INT (in), 8 TCK (in), 9 TDO (out), 10 TMS (in), 11 ~{TRST} (in), 12 TDI (in), 13 RD - (io), 14 RD + (io), 15 AGND (power), 16 TD - (io), 17 TD + (io), 18 PFBIN1 (in), 19 AGND (power), 20 RESERVED (io), 21 RESERVED (io), 22 AVDD33 (power), 23 PFBOUT (out), 24 RBIAS (in), 25 CLK_OUT (out), 26 LED_ACT/COL/AN_EN (out), 27 LED_SPEED/AN1 (out), 28 LED_LINK/AN0 (out), 29 RESET_N (in), 30 MDIO (io), 31 MDC (in), 32 IOVDD33 (power), 33 X2 (out), 34 X1 (in), 35 IOGND (power), 36 DGND (power), 37 PFBIN2 (in), 38 RX_CLK (out), 39 RX_DV/MII_MODE (out), 40 CRS/CRS_DV/LED_CFG (out), 41 RX_ER/MDIX_EN (out), 42 COL/PHYAD0 (out), 43 RXD_0/PHYAD1 (out), 44 RXD_1/PHYAD2 (out), 45 RXD_2/PHYAD3 (out), 46 RXD_3/PHYAD4 (out), 47 IOGND (power), 48 IOVDD33 (power)

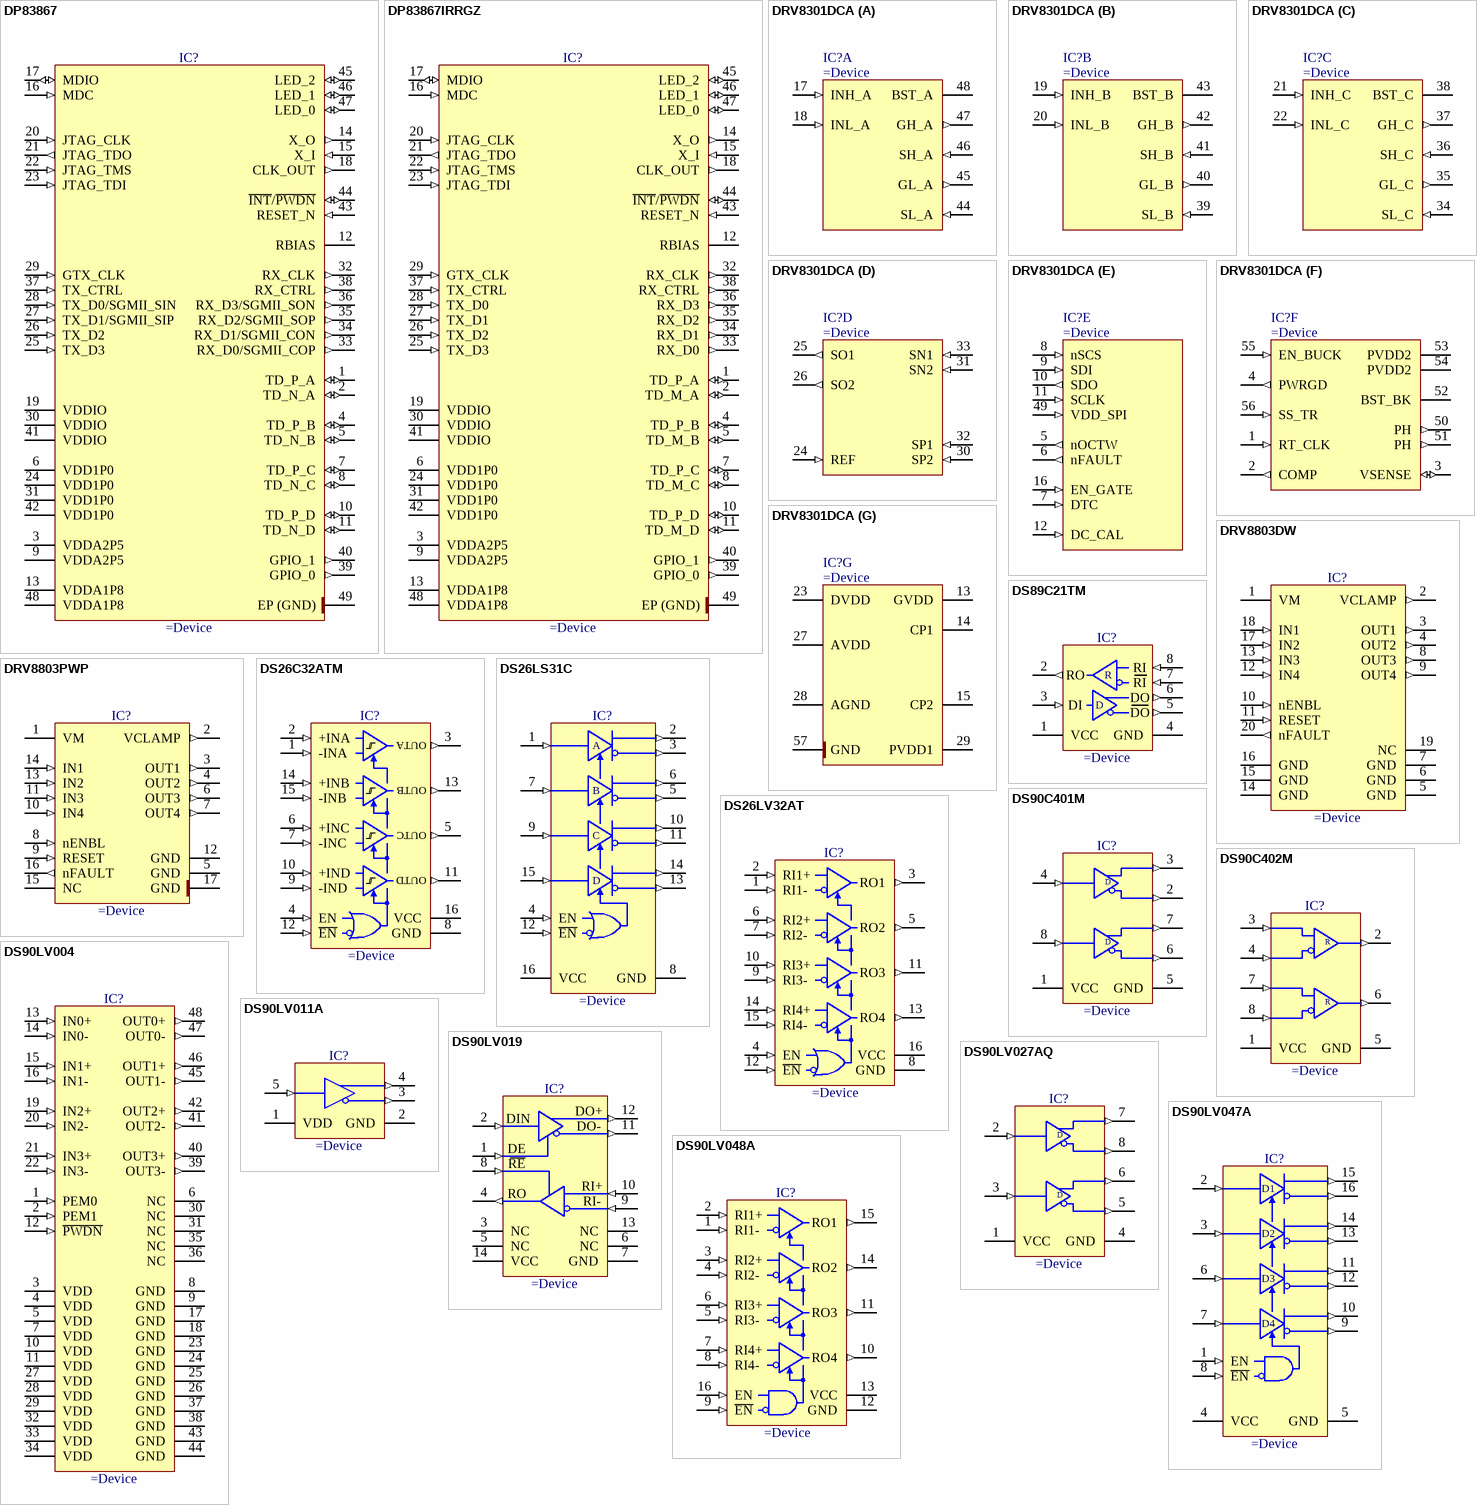
[diagram p31: symbols DP83867 to DS90LV048A]

## DP83867
designator IC?
Robust, High Immunity, Small Form Factor 10/100/1000 Ethernet Physical Layer Transceiver
pins: 1 TD_P_A (io), 2 TD_N_A (io), 3 VDDA2P5 (power), 4 TD_P_B (io), 5 TD_N_B (io), 6 VDD1P0 (power), 7 TD_P_C (io), 8 TD_N_C (io), 9 VDDA2P5 (power), 10 TD_P_D (io), 11 TD_N_D (io), 12 RBIAS, 13 VDDA1P8 (power), 14 X_O (out), 15 X_I (in), 16 MDC (in), 17 MDIO (io), 18 CLK_OUT (out), 19 VDDIO (power), 20 JTAG_CLK (in), 21 JTAG_TDO (out), 22 JTAG_TMS (in), 23 JTAG_TDI (in), 24 VDD1P0 (power), 25 TX_D3 (in), 26 TX_D2 (in), 27 TX_D1/SGMII_SIP (in), 28 TX_D0/SGMII_SIN (in), 29 GTX_CLK (in), 30 VDDIO (power), 31 VDD1P0 (power), 32 RX_CLK (out), 33 RX_D0/SGMII_COP (out), 34 RX_D1/SGMII_CON (out), 35 RX_D2/SGMII_SOP (out), 36 RX_D3/SGMII_SON (out), 37 TX_CTRL (in), 38 RX_CTRL (out), 39 GPIO_0 (out), 40 GPIO_1 (out), 41 VDDIO (power), 42 VDD1P0 (power), 43 RESET_N (in), 44 ~{INT}/~{PWDN} (io), 45 LED_2 (io), 46 LED_1 (io), 47 LED_0 (io), 48 VDDA1P8 (power), 49 EP (GND) (power)

## DP83867IRRGZ
designator IC?
Robust, High Immunity 10/100/1000 Ethernet Physical Layer Transceiver
pins: 1 TD_P_A (io), 2 TD_M_A (io), 3 VDDA2P5 (power), 4 TD_P_B (io), 5 TD_M_B (io), 6 VDD1P0 (power), 7 TD_P_C (io), 8 TD_M_C (io), 9 VDDA2P5 (power), 10 TD_P_D (io), 11 TD_M_D (io), 12 RBIAS, 13 VDDA1P8 (power), 14 X_O (out), 15 X_I (in), 16 MDC (in), 17 MDIO (io), 18 CLK_OUT (out), 19 VDDIO (power), 20 JTAG_CLK (in), 21 JTAG_TDO (out), 22 JTAG_TMS (in), 23 JTAG_TDI (in), 24 VDD1P0 (power), 25 TX_D3 (in), 26 TX_D2 (in), 27 TX_D1 (in), 28 TX_D0 (in), 29 GTX_CLK (in), 30 VDDIO (power), 31 VDD1P0 (power), 32 RX_CLK (out), 33 RX_D0 (out), 34 RX_D1 (out), 35 RX_D2 (out), 36 RX_D3 (out), 37 TX_CTRL (in), 38 RX_CTRL (out), 39 GPIO_0 (out), 40 GPIO_1 (out), 41 VDDIO (power), 42 VDD1P0 (power), 43 RESET_N (in), 44 ~{INT}/~{PWDN} (io), 45 LED_2 (io), 46 LED_1 (io), 47 LED_0 (io), 48 VDDA1P8 (power), 49 EP (GND) (power)

## DRV8301DCA
designator IC?
Three-Phase Gate Driver With Dual Current Shunt Amplifiers and Buck Regulator
part A pins: 17 INH_A (in), 18 INL_A (in), 44 SL_A (in), 45 GL_A (out), 46 SH_A (in), 47 GH_A (out), 48 BST_A (power)
part B pins: 19 INH_B (in), 20 INL_B (in), 39 SL_B (in), 40 GL_B (out), 41 SH_B (in), 42 GH_B (out), 43 BST_B (power)
part C pins: 21 INH_C (in), 22 INL_C (in), 34 SL_C (in), 35 GL_C (out), 36 SH_C (in), 37 GH_C (out), 38 BST_C (power)
part D pins: 24 REF (in), 25 SO1 (out), 26 SO2 (out), 30 SP2 (in), 31 SN2 (in), 32 SP1 (in), 33 SN1 (in)
part E pins: 5 nOCTW (out), 6 nFAULT (out), 7 DTC (in), 8 nSCS (in), 9 SDI (in), 10 SDO (out), 11 SCLK (in), 12 DC_CAL (in), 16 EN_GATE (in), 49 VDD_SPI (in)
part F pins: 1 RT_CLK (in), 2 COMP (out), 3 VSENSE (io), 4 PWRGD (out), 50 PH (out), 51 PH (out), 52 BST_BK (power), 53 PVDD2 (power), 54 PVDD2 (power), 55 EN_BUCK (in), 56 SS_TR (in)
part G pins: 13 GVDD (power), 14 CP1 (power), 15 CP2 (power), 23 DVDD (power), 27 AVDD (power), 28 AGND (power), 29 PVDD1 (power), 57 GND (power)

## DRV8803DW
designator IC?
2.0A Unipolar Stepper Motor or 1A Quad Solenoid/Relay Driver (PWM Ctrl)
pins: 1 VM (power), 2 VCLAMP (out), 3 OUT1 (out), 4 OUT2 (out), 5 GND (power), 6 GND (power), 7 GND (power), 8 OUT3 (out), 9 OUT4 (out), 10 nENBL (in), 11 RESET (in), 12 IN4 (in), 13 IN3 (in), 14 GND (power), 15 GND (power), 16 GND (power), 17 IN2 (in), 18 IN1 (in), 19 NC, 20 nFAULT (out)

## DRV8803PWP
designator IC?
2.0A Unipolar Stepper Motor or 1A Quad Solenoid/Relay Driver (PWM Ctrl)
pins: 1 VM (power), 2 VCLAMP (out), 3 OUT1 (out), 4 OUT2 (out), 5 GND (power), 6 OUT3 (out), 7 OUT4 (out), 8 nENBL (in), 9 RESET (in), 10 IN4 (in), 11 IN3 (in), 12 GND (power), 13 IN2 (in), 14 IN1 (in), 15 NC, 16 nFAULT (out), 17 GND (power)

## DS26C32ATM
designator IC?
Quad Differential Line Receiver
pins: 1 -INA (in), 2 +INA (in), 3 OUTA (out), 4 EN (in), 5 OUTC (out), 6 +INC (in), 7 -INC (in), 8 GND (power), 9 -IND (in), 10 +IND (in), 11 OUTD (out), 12 ~{EN} (in), 13 OUTC (out), 14 +INB (in), 15 -INB (in), 16 VCC (power)
text: OUTB

## DS26LS31C
designator IC?
Quad High Speed Differential Line Driver
pins: 1 INA (in), 2 OA+ (out), 3 OA- (out), 4 EN (in), 5 OB- (out), 6 OB+ (out), 7 INB (in), 8 GND (power), 9 INC (in), 10 OC+ (out), 11 OC- (out), 12 ~{EN} (in), 13 OD- (out), 14 OD+ (out), 15 IND (in), 16 VCC (power)
text: A; B; C; D

## DS26LV32AT
designator IC?
3V Enhanced CMOS Quad Differential Line Receiver
pins: 1 RI1- (in), 2 RI1+ (in), 3 RO1 (out), 4 EN (in), 5 RO2 (out), 6 RI2+ (in), 7 RI2- (in), 8 GND (power), 9 RI3- (in), 10 RI3+ (in), 11 RO3 (out), 12 ~{EN} (in), 13 RO4 (out), 14 RI4+ (in), 15 RI4- (in), 16 VCC (power)

## DS89C21TM
designator IC?
Differential CMOS Line Driver and Receiver Pair
pins: 1 VCC (power), 2 RO (out), 3 DI (in), 4 GND (power), 5 ~{DO} (out), 6 DO (out), 7 ~{RI} (in), 8 RI (in)
text: R; D

## DS90C401M
designator IC?
Dual Low Voltage Differential Signaling (LVDS) Driver
pins: 1 VCC (power), 2 DO1- (out), 3 DO1+ (out), 4 DI1 (in), 5 GND (power), 6 DO2- (out), 7 DO2+ (out), 8 DI2 (in)
text: D

## DS90C402M
designator IC?
Dual Low Voltage Differential Signaling (LVDS) Receiver
pins: 1 VCC (power), 2 RO1 (out), 3 RI1+ (in), 4 RI1- (in), 5 GND (power), 6 RO2 (out), 7 RI2+ (in), 8 RI2- (in)
text: R

## DS90LV004
designator IC?
4-Channel LVDS Buffer/Repeater With Pre-Emphasis
pins: 1 PEM0 (in), 2 PEM1 (in), 3 VDD (power), 4 VDD (power), 5 VDD (power), 6 NC, 7 VDD (power), 8 GND (power), 9 GND (power), 10 VDD (power), 11 VDD (power), 12 ~{PWDN} (in), 13 IN0+ (in), 14 IN0- (in), 15 IN1+ (in), 16 IN1- (in), 17 GND (power), 18 GND (power), 19 IN2+ (in), 20 IN2- (in), 21 IN3+ (in), 22 IN3- (in), 23 GND (power), 24 GND (power), 25 GND (power), 26 GND (power), 27 VDD (power), 28 VDD (power), 29 VDD (power), 30 NC, 31 NC, 32 VDD (power), 33 VDD (power), 34 VDD (power), 35 NC, 36 NC, 37 GND (power), 38 GND (power), 39 OUT3- (out), 40 OUT3+ (out), 41 OUT2- (out), 42 OUT2+ (out), 43 GND (power), 44 GND (power), 45 OUT1- (out), 46 OUT1+ (out), 47 OUT0- (out), 48 OUT0+ (out)

## DS90LV011A
designator IC?
3V LVDS Single High Speed Differential Driver
pins: 1 VDD (power), 2 GND (power), 3 OUT- (out), 4 OUT+ (out), 5 TTLIN (in)

## DS90LV019
designator IC?
3.3V or 5V LVDS Driver/Receiver
pins: 1 DE (in), 2 DIN (in), 3 NC, 4 RO (out), 5 NC, 6 NC, 7 GND (power), 8 ~{RE} (in), 9 RI- (in), 10 RI+ (in), 11 DO- (out), 12 DO+ (out), 13 NC, 14 VCC (power)
text: RE

## DS90LV027AQ
designator IC?
Automotive LVDS Dual Differential Driver
pins: 1 VCC (power), 2 DI1 (in), 3 DI2 (in), 4 GND (power), 5 DO2- (out), 6 DO2+ (out), 7 DO1+ (out), 8 DO1- (out)
text: D

## DS90LV047A
designator IC?
3V LVDS Quad CMOS Differential Line Driver
pins: 1 EN (in), 2 DIN1 (in), 3 DIN2 (in), 4 VCC (power), 5 GND (power), 6 DIN3 (in), 7 DIN4 (in), 8 ~{EN} (in), 9 DOUT4- (out), 10 DOUT4+ (out), 11 DOUT3+ (out), 12 DOUT3- (out), 13 DOUT2- (out), 14 DOUT2+ (out), 15 DOUT1+ (out), 16 DOUT1- (out)
text: D1; D2; D3; D4

## DS90LV048A
designator IC?
3V LVDS Quad CMOS Differential Line Receiver
pins: 1 RI1- (in), 2 RI1+ (in), 3 RI2+ (in), 4 RI2- (in), 5 RI3- (in), 6 RI3+ (in), 7 RI4+ (in), 8 RI4- (in), 9 ~{EN} (in), 10 RO4 (out), 11 RO3 (out), 12 GND (power), 13 VCC (power), 14 RO2 (out), 15 RO1 (out), 16 EN (in)

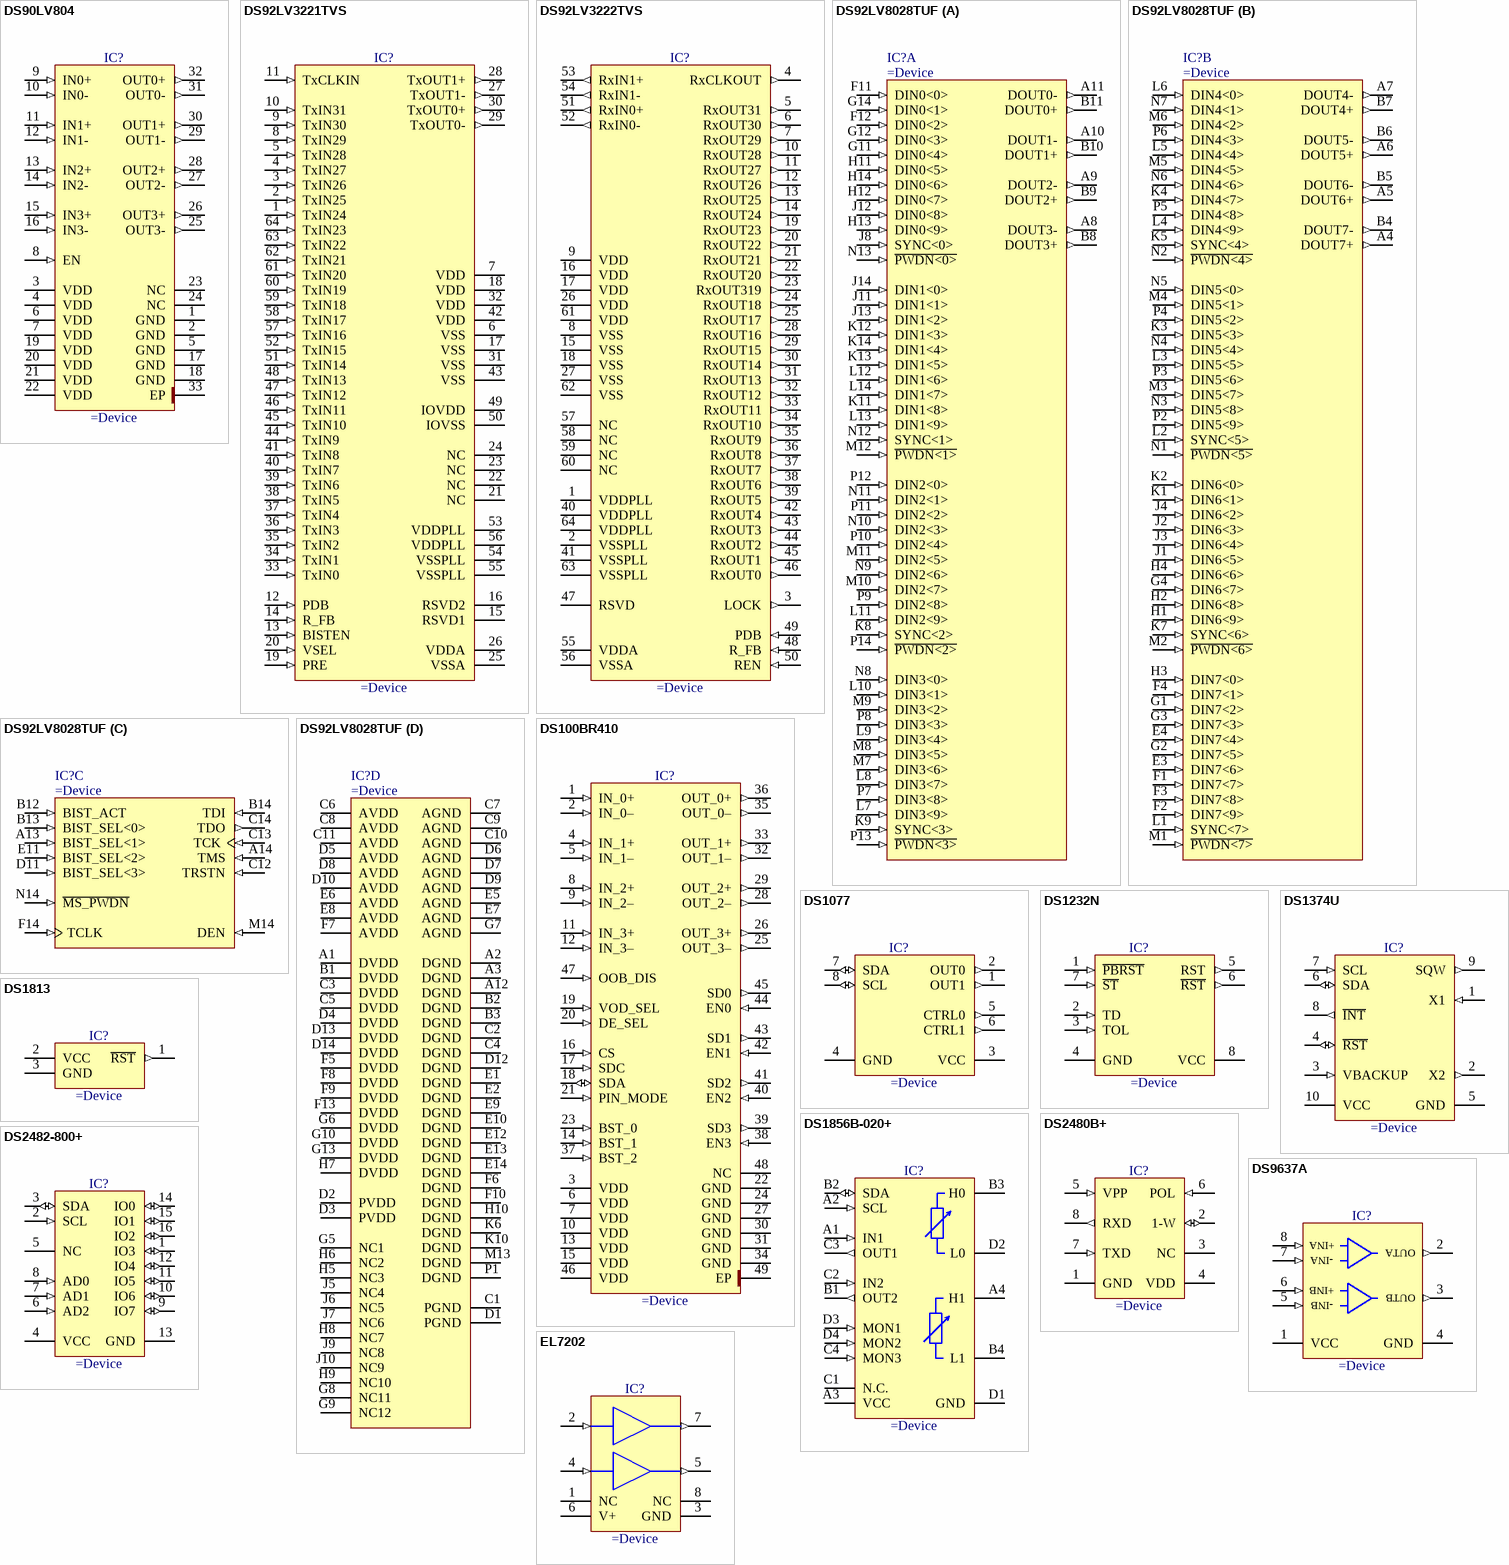
[diagram p32: symbols DS90LV804 to EL7202]

## DS90LV804
designator IC?
4-Channel 800 Mbps LVDS Buffer/Repeater
pins: 1 GND (power), 2 GND (power), 3 VDD (power), 4 VDD (power), 5 GND (power), 6 VDD (power), 7 VDD (power), 8 EN (in), 9 IN0+ (in), 10 IN0- (in), 11 IN1+ (in), 12 IN1- (in), 13 IN2+ (in), 14 IN2- (in), 15 IN3+ (in), 16 IN3- (in), 17 GND (power), 18 GND (power), 19 VDD (power), 20 VDD (power), 21 VDD (power), 22 VDD (power), 23 NC, 24 NC, 25 OUT3- (out), 26 OUT3+ (out), 27 OUT2- (out), 28 OUT2+ (out), 29 OUT1- (out), 30 OUT1+ (out), 31 OUT0- (out), 32 OUT0+ (out), 33 EP (power)

## DS92LV3221TVS
designator IC?
20-50 MHz 32-Bit Channel Link II Serializer
pins: 1 TxIN24 (in), 2 TxIN25 (in), 3 TxIN26 (in), 4 TxIN27 (in), 5 TxIN28 (in), 6 VSS (power), 7 VDD (power), 8 TxIN29 (in), 9 TxIN30 (in), 10 TxIN31 (in), 11 TxCLKIN (in), 12 PDB (in), 13 BISTEN (in), 14 R_FB (in), 15 RSVD1, 16 RSVD2, 17 VSS (power), 18 VDD (power), 19 PRE (in), 20 VSEL (in), 21 NC, 22 NC, 23 NC, 24 NC, 25 VSSA (power), 26 VDDA (power), 27 TxOUT1- (out), 28 TxOUT1+ (out), 29 TxOUT0- (out), 30 TxOUT0+ (out), 31 VSS (power), 32 VDD (power), 33 TxIN0 (in), 34 TxIN1 (in), 35 TxIN2 (in), 36 TxIN3 (in), 37 TxIN4 (in), 38 TxIN5 (in), 39 TxIN6 (in), 40 TxIN7 (in), 41 TxIN8 (in), 42 VDD (power), 43 VSS (power), 44 TxIN9 (in), 45 TxIN10 (in), 46 TxIN11 (in), 47 TxIN12 (in), 48 TxIN13 (in), 49 IOVDD (power), 50 IOVSS (power), 51 TxIN14 (in), 52 TxIN15 (in), 53 VDDPLL (power), 54 VSSPLL (power), 55 VSSPLL (power), 56 VDDPLL (power), 57 TxIN16 (in), 58 TxIN17 (in), 59 TxIN18 (in), 60 TxIN19 (in), 61 TxIN20 (in), 62 TxIN21 (in), 63 TxIN22 (in), 64 TxIN23 (in)

## DS92LV3222TVS
designator IC?
20-50 MHz 32-Bit Channel Link II Deserializer
pins: 1 VDDPLL (power), 2 VSSPLL (power), 3 LOCK (out), 4 RxCLKOUT (out), 5 RxOUT31 (out), 6 RxOUT30 (out), 7 RxOUT29 (out), 8 VSS (power), 9 VDD (power), 10 RxOUT28 (out), 11 RxOUT27 (out), 12 RxOUT26 (out), 13 RxOUT25 (out), 14 RxOUT24 (out), 15 VSS (power), 16 VDD (power), 17 VDD (power), 18 VSS (power), 19 RxOUT23 (out), 20 RxOUT22 (out), 21 RxOUT21 (out), 22 RxOUT20 (out), 23 RxOUT319 (out), 24 RxOUT18 (out), 25 RxOUT17 (out), 26 VDD (power), 27 VSS (power), 28 RxOUT16 (out), 29 RxOUT15 (out), 30 RxOUT14 (out), 31 RxOUT13 (out), 32 RxOUT12 (out), 33 RxOUT11 (out), 34 RxOUT10 (out), 35 RxOUT9 (out), 36 RxOUT8 (out), 37 RxOUT7 (out), 38 RxOUT6 (out), 39 RxOUT5 (out), 40 VDDPLL (power), 41 VSSPLL (power), 42 RxOUT4 (out), 43 RxOUT3 (out), 44 RxOUT2 (out), 45 RxOUT1 (out), 46 RxOUT0 (out), 47 RSVD, 48 R_FB (in), 49 PDB (in), 50 REN (in), 51 RxIN0+ (out), 52 RxIN0- (out), 53 RxIN1+ (out), 54 RxIN1- (out), 55 VDDA (power), 56 VSSA (power), 57 NC, 58 NC, 59 NC, 60 NC, 61 VDD (power), 62 VSS (power), 63 VSSPLL (power), 64 VDDPLL (power)

## DS92LV8028TUF
designator IC?
8 Channel 10:1 Serializer, 196-pin LBGA
part A pins: A8 DOUT3- (out), A9 DOUT2- (out), A10 DOUT1- (out), A11 DOUT0- (out), B8 DOUT3+ (out), B9 DOUT2+ (out), B10 DOUT1+ (out), B11 DOUT0+ (out), F11 DIN0<0> (in), F12 DIN0<2> (in), G11 DIN0<4> (in), G12 DIN0<3> (in), G14 DIN0<1> (in), H11 DIN0<5> (in), H12 DIN0<7> (in), H13 DIN0<9> (in), H14 DIN0<6> (in), J8 SYNC<0> (in), J11 DIN1<1> (in), J12 DIN0<8> (in), J13 DIN1<2> (in), J14 DIN1<0> (in), K8 SYNC<2> (in), K9 SYNC<3> (in), K11 DIN1<8> (in), K12 DIN1<3> (in), K13 DIN1<5> (in), K14 DIN1<4> (in), L7 DIN3<9> (in), L8 DIN3<7> (in), L9 DIN3<4> (in), L10 DIN3<1> (in), L11 DIN2<9> (in), L12 DIN1<6> (in), L13 DIN1<9> (in), L14 DIN1<7> (in), M7 DIN3<6> (in), M8 DIN3<5> (in), M9 DIN3<2> (in), M10 DIN2<7> (in), M11 DIN2<5> (in), M12 ~{PWDN<1>} (in), N8 DIN3<0> (in), N9 DIN2<6> (in), N10 DIN2<3> (in), N11 DIN2<1> (in), N12 SYNC<1> (in), N13 ~{PWDN<0>} (in), P7 DIN3<8> (in), P8 DIN3<3> (in), P9 DIN2<8> (in), P10 DIN2<4> (in), P11 DIN2<2> (in), P12 DIN2<0> (in), P13 ~{PWDN<3>} (in), P14 ~{PWDN<2>} (in)
part B pins: A4 DOUT7+ (out), A5 DOUT6+ (out), A6 DOUT5+ (out), A7 DOUT4- (out), B4 DOUT7- (out), B5 DOUT6- (out), B6 DOUT5- (out), B7 DOUT4+ (out), E3 DIN7<6> (in), E4 DIN7<4> (in), F1 DIN7<7> (in), F2 DIN7<9> (in), F3 DIN7<8> (in), F4 DIN7<1> (in), G1 DIN7<2> (in), G2 DIN7<5> (in), G3 DIN7<3> (in), G4 DIN6<7> (in), H1 DIN6<9> (in), H2 DIN6<8> (in), H3 DIN7<0> (in), H4 DIN6<6> (in), J1 DIN6<5> (in), J2 DIN6<3> (in), J3 DIN6<4> (in), J4 DIN6<2> (in), K1 DIN6<1> (in), K2 DIN6<0> (in), K3 DIN5<3> (in), K4 DIN4<7> (in), K5 SYNC<4> (in), K7 SYNC<6> (in), L1 SYNC<7> (in), L2 SYNC<5> (in), L3 DIN5<5> (in), L4 DIN4<9> (in), L5 DIN4<4> (in), L6 DIN4<0> (in), M1 ~{PWDN<7>} (in), M2 ~{PWDN<6>} (in), M3 DIN5<7> (in), M4 DIN5<1> (in), M5 DIN4<5> (in), M6 DIN4<2> (in), N1 ~{PWDN<5>} (in), N2 ~{PWDN<4>} (in), N3 DIN5<8> (in), N4 DIN5<4> (in), N5 DIN5<0> (in), N6 DIN4<6> (in), N7 DIN4<1> (in), P2 DIN5<9> (in), P3 DIN5<6> (in), P4 DIN5<2> (in), P5 DIN4<8> (in), P6 DIN4<3> (in)
part C pins: A13 BIST_SEL<1> (in), A14 TMS (in), B12 BIST_ACT (in), B13 BIST_SEL<0> (in), B14 TDI (in), C12 TRSTN (in), C13 TCK (in), C14 TDO (out), D11 BIST_SEL<3> (in), E11 BIST_SEL<2> (in), F14 TCLK (in), M14 DEN (in), N14 ~{MS_PWDN} (in)
part D pins: A1 DVDD (power), A2 DGND (power), A3 DGND (power), A12 DGND (power), B1 DVDD (power), B2 DGND (power), B3 DGND (power), C1 PGND (power), C2 DGND (power), C3 DVDD (power), C4 DGND (power), C5 DVDD (power), C6 AVDD (power), C7 AGND (power), C8 AVDD (power), C9 AGND (power), C10 AGND (power), C11 AVDD (power), D1 PGND (power), D2 PVDD (power), D3 PVDD (power), D4 DVDD (power), D5 AVDD (power), D6 AGND (power), D7 AGND (power), D8 AVDD (power), D9 AGND (power), D10 AVDD (power), D12 DGND (power), D13 DVDD (power), D14 DVDD (power), E1 DGND (power), E2 DGND (power), E5 AGND (power), E6 AVDD (power), E7 AGND (power), E8 AVDD (power), E9 DGND (power), E10 DGND (power), E12 DGND (power), E13 DGND (power), E14 DGND (power), F5 DVDD (power), F6 DGND (power), F7 AVDD (power), F8 DVDD (power), F9 DVDD (power), F10 DGND (power), F13 DVDD (power), G5 NC1, G6 DVDD (power), G7 AGND (power), G8 NC11, G9 NC12, G10 DVDD (power), G13 DVDD (power), H5 NC3, H6 NC2, H7 DVDD (power), H8 NC7, H9 NC10, H10 DGND (power), J5 NC4, J6 NC5, J7 NC6, J9 NC8, J10 NC9, K6 DGND (power), K10 DGND (power), M13 DGND (power), P1 DGND (power)

## DS100BR410
designator IC?
Low Power Quad Channel Repeater with 10.3125 Gbps Equalizer and De-Emphasis Driver
pins: 1 IN_0+ (in) "Non-inverting CML differential input to the equalizer.", 2 IN_0– (in) "Inverting CML differential input to the equalizer.", 3 VDD (power) "VDD = 2.5 V ± 5%", 4 IN_1+ (in) "Non-inverting CML differential input to the equalizer.", 5 IN_1– (in) "Inverting CML differential input to the equalizer.", 6 VDD (power) "VDD = 2.5 V ± 5%", 7 VDD (power) "VDD = 2.5 V ± 5%", 8 IN_2+ (in) "Non-inverting CML differential input to the equalizer.", 9 IN_2– (in) "Inverting CML differential input to the equalizer.", 10 VDD (power) "VDD = 2.5 V ± 5%", 11 IN_3+ (in) "Non-inverting CML differential input to the equalizer.", 12 IN_3– (in) "Inverting CML differential input to the equalizer.", 13 VDD (power) "VDD = 2.5 V ± 5%", 14 BST_1 (in) "Select the equalizer boost level for all channels.", 15 VDD (power) "VDD = 2.5 V ± 5%", 16 CS (in) "Chip Select", 17 SDC (in) "Clock Input", 18 SDA (io) "Data Input / Open Drain Output", 19 VOD_SEL (in) "Differential Output Voltage Select Input", 20 DE_SEL (in) "De-Emphasis Select Input", 21 PIN_MODE (in) "Pin mode control input.", 22 GND (power) "Ground reference.", 23 BST_0 (in) "Select the equalizer boost level for all channels.", 24 GND (power) "Ground reference.", 25 OUT_3– (out) "Inverting CML differential output from the driver.", 26 OUT_3+ (out) "Non-inverting CML differential output from the driver.", 27 GND (power) "Ground reference.", 28 OUT_2– (out) "Inverting CML differential output from the driver.", 29 OUT_2+ (out) "Non-inverting CML differential output from the driver.", 30 GND (power) "Ground reference.", 31 GND (power) "Ground reference.", 32 OUT_1– (out) "Inverting CML differential output from the driver.", 33 OUT_1+ (out) "Non-inverting CML differential output from the driver.", 34 GND (power) "Ground reference.", 35 OUT_0– (out) "Inverting CML differential output from the driver.", 36 OUT_0+ (out) "Non-inverting CML differential output from the driver.", 37 BST_2 (in) "Select the equalizer boost level for all channels.", 38 EN3 (in) "Enable channel n input.", 39 SD3 (out) "Signal detect n output.", 40 EN2 (in) "Enable channel n input.", 41 SD2 (out) "Signal detect n output.", 42 EN1 (in) "Enable channel n input.", 43 SD1 (out) "Signal detect n output.", 44 EN0 (in) "Enable channel n input.", 45 SD0 (out) "Signal detect n output.", 46 VDD (power) "VDD = 2.5 V ± 5%", 47 OOB_DIS (in) "OOB disable control input.", 48 NC "Reserved – Do not connect", 49 EP (power)

## DS1077
designator IC?
+5V, EconOscillator/Divide, Processor-Controlled or Standalone Solid-State Oscillator
pins: 1 OUT1 (out), 2 OUT0 (out), 3 VCC (power), 4 GND (power), 5 CTRL0 (out), 6 CTRL1 (out), 7 SDA (io), 8 SCL (io)

## DS1232N
designator IC?
5V MicroMonitor Chip
pins: 1 ~{PBRST} (in), 2 TD (in), 3 TOL (in), 4 GND (power), 5 RST (out), 6 ~{RST} (out), 7 ~{ST} (in), 8 VCC (power)

## DS1374U
designator IC?
I2C, 32-Bit Binary Counter Watchdog RTC with Trickle Charger and Reset Input/Output
pins: 1 X1 (in), 2 X2 (out), 3 VBACKUP (in), 4 ~{RST} (io), 5 GND (power), 6 SDA (io), 7 SCL (in), 8 ~{INT} (out), 9 SQW (out), 10 VCC (power)

## DS1813
designator IC?
5V EconoReset with Pushbutton
pins: 1 ~{RST} (out), 2 VCC (power), 3 GND (power)

## DS1856B-020+
designator IC?
Dual, Temperature-Controlled Resistors with Internally Calibrated Monitors and Password Protection
pins: A1 IN1 (in), A2 SCL (in), A3 VCC (power), A4 H1, B1 OUT2 (out), B2 SDA (io), B3 H0, B4 L1, C1 N.C., C2 IN2 (in), C3 OUT1 (out), C4 MON3 (in), D1 GND (power), D2 L0, D3 MON1 (in), D4 MON2 (in)

## DS2480B+
designator IC?
Serial to 1-Wire Line Driver
pins: 1 GND (power), 2 1-W (io), 3 NC, 4 VDD (power), 5 VPP (in), 6 POL (in), 7 TXD (in), 8 RXD (out)

## DS2482-800+
designator IC?
8-Channel I2C-to 1-Wire Master
pins: 1 IO3 (io) "IO Driver for 1-Wire Line #3", 2 SCL (in) "I2C Serial Clock Input", 3 SDA (io) "I2C Serial Data Input/Output", 4 VCC (power) "Power Supply Input", 5 NC "Not Connected", 6 AD2 (in) "I2C Address Inputs", 7 AD1 (in) "I2C Address Inputs", 8 AD0 (in) "I2C Address Inputs", 9 IO7 (io) "IO Driver for 1-Wire Line #7", 10 IO6 (io) "IO Driver for 1-Wire Line #6", 11 IO5 (io) "IO Driver for 1-Wire Line #5", 12 IO4 (io) "IO Driver for 1-Wire Line #4", 13 GND (power) "Ground Reference", 14 IO0 (io) "IO Driver for 1-Wire Line #0", 15 IO1 (io) "IO Driver for 1-Wire Line #1", 16 IO2 (io) "IO Driver for 1-Wire Line #2"

## DS9637A
designator IC?
Dual Differential Line Receiver
pins: 1 VCC (power), 2 OUTA (out), 3 OUTB (out), 4 GND (power), 5 -INB (in), 6 +INB (in), 7 -INA (in), 8 +INA (in)

## EL7202
designator IC?
High Speed, Dual Channel Power Non-Inverting MOSFET Drivers
pins: 1 NC, 2 IN (in), 3 GND (power), 4 IN (in), 5 OUT (out), 6 V+ (power), 7 OUT (out), 8 NC

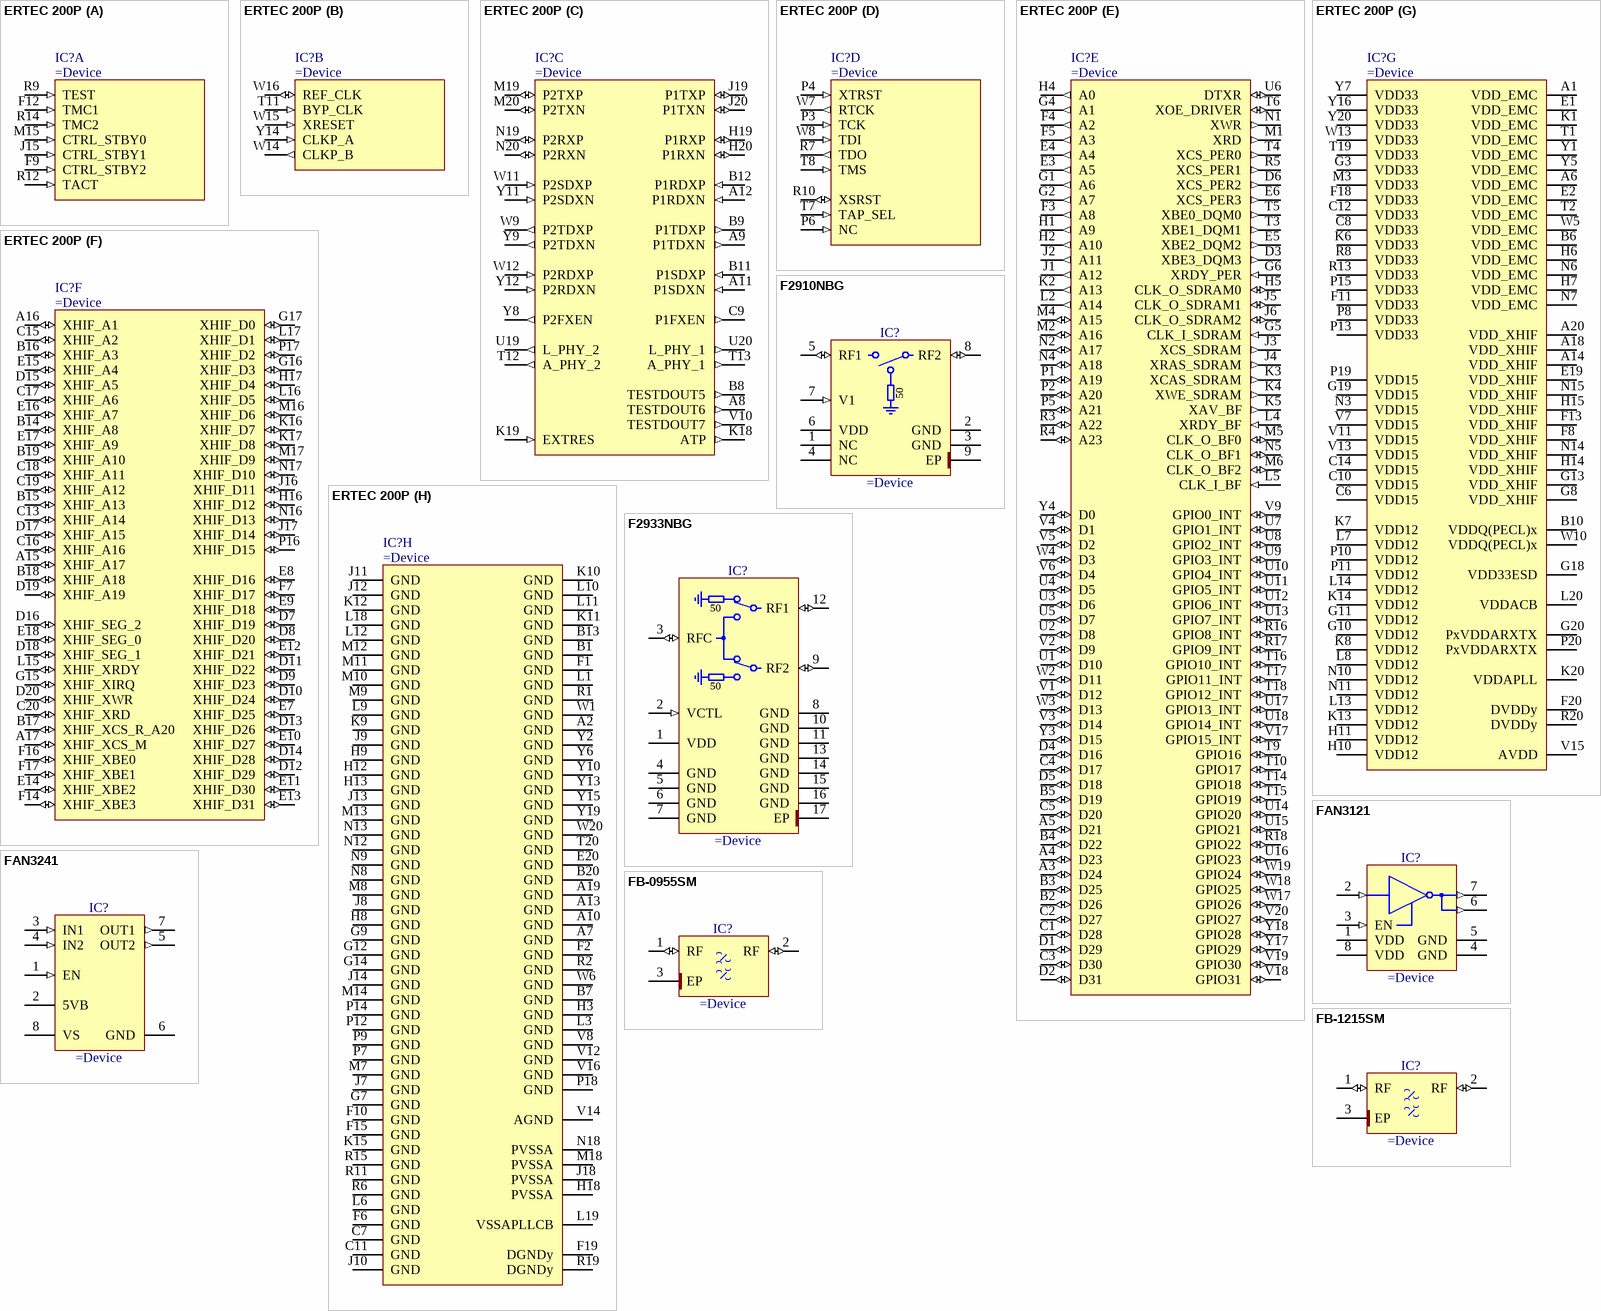
[diagram p33: symbols ERTEC 200P to FB-1215SM]